# Altium integrated library Altium Database Library V2.IntLib: 722 symbols (part 15 of 35)

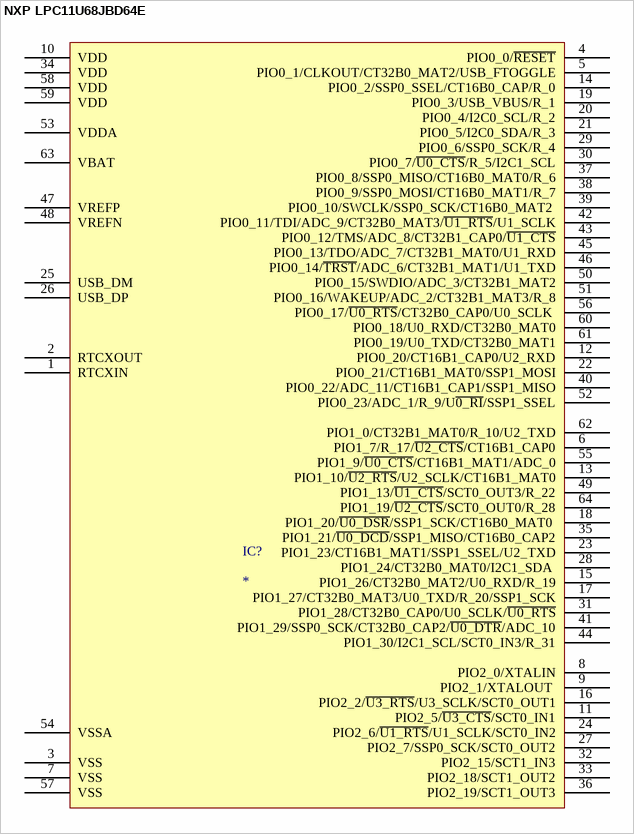
[diagram p322: symbol NXP LPC11U68JBD64E]

## NXP LPC11U68JBD64E
designator IC?
pins: 1 RTCXIN, 2 RTCXOUT, 3 VSS, 4 PIO0_0/~{RESET}, 5 PIO0_1/CLKOUT/CT32B0_MAT2/USB_FTOGGLE, 6 PIO1_7/R_17/~{U2_CTS}/CT16B1_CAP0, 7 VSS, 8 PIO2_0/XTALIN, 9 PIO2_1/XTALOUT , 10 VDD, 11 PIO2_5/~{U3_CTS}/SCT0_IN1, 12 PIO0_20/CT16B1_CAP0/U2_RXD, 13 PIO1_10/~{U2_RTS}/U2_SCLK/CT16B1_MAT0, 14 PIO0_2/SSP0_SSEL/CT16B0_CAP/R_0, 15 PIO1_26/CT32B0_MAT2/U0_RXD/R_19, 16 PIO2_2/~{U3_RTS}/U3_SCLK/SCT0_OUT1, 17 PIO1_27/CT32B0_MAT3/U0_TXD/R_20/SSP1_SCK, 18 PIO1_20/~{U0_DSR}/SSP1_SCK/CT16B0_MAT0 , 19 PIO0_3/USB_VBUS/R_1, 20 PIO0_4/I2C0_SCL/R_2, 21 PIO0_5/I2C0_SDA/R_3, 22 PIO0_21/CT16B1_MAT0/SSP1_MOSI, 23 PIO1_23/CT16B1_MAT1/SSP1_SSEL/U2_TXD, 24 PIO2_6/~{U1_RTS}/U1_SCLK/SCT0_IN2, 25 USB_DM, 26 USB_DP, 27 PIO2_7/SSP0_SCK/SCT0_OUT2, 28 PIO1_24/CT32B0_MAT0/I2C1_SDA , 29 PIO0_6/SSP0_SCK/R_4, 30 PIO0_7/~{U0_CTS}/R_5/I2C1_SCL, 31 PIO1_28/CT32B0_CAP0/U0_SCLK/~{U0_RTS}, 32 PIO2_15/SCT1_IN3, 33 PIO2_18/SCT1_OUT2, 34 VDD, 35 PIO1_21/~{U0_DCD}/SSP1_MISO/CT16B0_CAP2, 36 PIO2_19/SCT1_OUT3, 37 PIO0_8/SSP0_MISO/CT16B0_MAT0/R_6, 38 PIO0_9/SSP0_MOSI/CT16B0_MAT1/R_7, 39 PIO0_10/SWCLK/SSP0_SCK/CT16B0_MAT2 , 40 PIO0_22/ADC_11/CT16B1_CAP1/SSP1_MISO, 41 PIO1_29/SSP0_SCK/CT32B0_CAP2/~{U0_DTR}/ADC_10, 42 PIO0_11/TDI/ADC_9/CT32B0_MAT3/~{U1_RTS}/U1_SCLK, 43 PIO0_12/TMS/ADC_8/CT32B1_CAP0/~{U1_CTS}, 44 PIO1_30/I2C1_SCL/SCT0_IN3/R_31, 45 PIO0_13/TDO/ADC_7/CT32B1_MAT0/U1_RXD, 46 PIO0_14/~{TRST}/ADC_6/CT32B1_MAT1/U1_TXD, 47 VREFP, 48 VREFN, 49 PIO1_13/~{U1_CTS}/SCT0_OUT3/R_22, 50 PIO0_15/SWDIO/ADC_3/CT32B1_MAT2, 51 PIO0_16/WAKEUP/ADC_2/CT32B1_MAT3/R_8, 52 PIO0_23/ADC_1/R_9/U~{0_RI}/SSP1_SSEL, 53 VDDA, 54 VSSA, 55 PIO1_9/~{U0_CTS}/CT16B1_MAT1/ADC_0, 56 PIO0_17/~{U0_RTS}/CT32B0_CAP0/U0_SCLK , 57 VSS, 58 VDD, 59 VDD, 60 PIO0_18/U0_RXD/CT32B0_MAT0, 61 PIO0_19/U0_TXD/CT32B0_MAT1, 62 PIO1_0/CT32B1_MAT0/R_10/U2_TXD, 63 VBAT, 64 PIO1_19/~{U2_CTS}/SCT0_OUT0/R_28


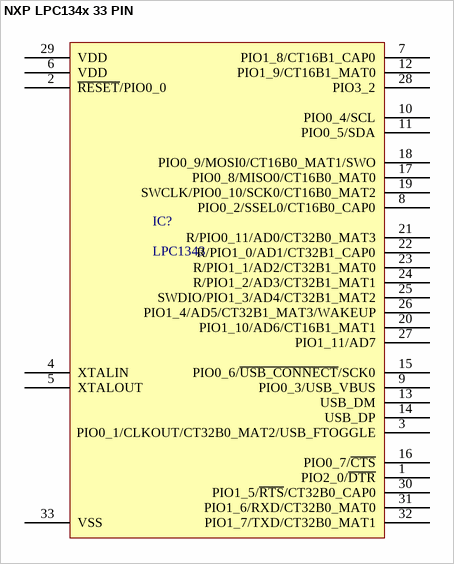
[diagram p323: symbol NXP LPC134x 33 PIN]

## NXP LPC134x 33 PIN
designator IC?, comment LPC1343
32-bit ARM Cortex-M3 microcontroller; up to 32kB flash and 8kB SRAM; USB device
pins: 1 PIO2_0/~{DTR}, 2 ~{RESET}/PIO0_0, 3 PIO0_1/CLKOUT/CT32B0_MAT2/USB_FTOGGLE, 4 XTALIN, 5 XTALOUT, 6 VDD, 7 PIO1_8/CT16B1_CAP0, 8 PIO0_2/SSEL0/CT16B0_CAP0, 9 PIO0_3/USB_VBUS, 10 PIO0_4/SCL, 11 PIO0_5/SDA, 12 PIO1_9/CT16B1_MAT0, 13 USB_DM, 14 USB_DP, 15 PIO0_6/~{USB_CONNECT}/SCK0, 16 PIO0_7/~{CTS}, 17 PIO0_8/MISO0/CT16B0_MAT0, 18 PIO0_9/MOSI0/CT16B0_MAT1/SWO, 19 SWCLK/PIO0_10/SCK0/CT16B0_MAT2, 20 PIO1_10/AD6/CT16B1_MAT1, 21 R/PIO0_11/AD0/CT32B0_MAT3, 22 R/PIO1_0/AD1/CT32B1_CAP0, 23 R/PIO1_1/AD2/CT32B1_MAT0, 24 R/PIO1_2/AD3/CT32B1_MAT1, 25 SWDIO/PIO1_3/AD4/CT32B1_MAT2, 26 PIO1_4/AD5/CT32B1_MAT3/WAKEUP, 27 PIO1_11/AD7, 28 PIO3_2, 29 VDD, 30 PIO1_5/~{RTS}/CT32B0_CAP0, 31 PIO1_6/RXD/CT32B0_MAT0, 32 PIO1_7/TXD/CT32B0_MAT1, 33 VSS


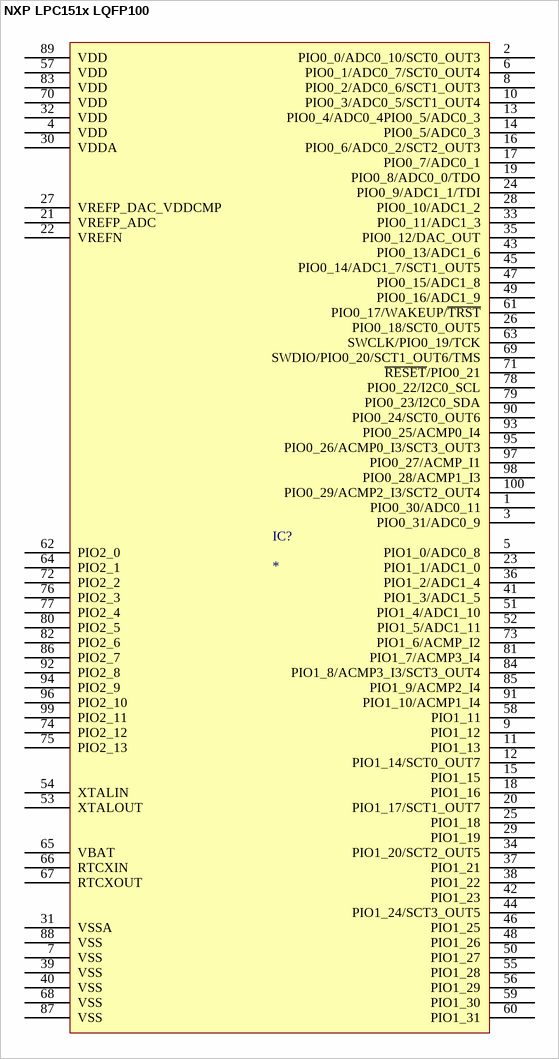
[diagram p324: symbol NXP LPC151x LQFP100]

## NXP LPC151x LQFP100
designator IC?
pins: 1 PIO0_30/ADC0_11, 2 PIO0_0/ADC0_10/SCT0_OUT3, 3 PIO0_31/ADC0_9, 4 VDD, 5 PIO1_0/ADC0_8, 6 PIO0_1/ADC0_7/SCT0_OUT4, 7 VSS, 8 PIO0_2/ADC0_6/SCT1_OUT3, 9 PIO1_12, 10 PIO0_3/ADC0_5/SCT1_OUT4, 11 PIO1_13, 12 PIO1_14/SCT0_OUT7, 13 PIO0_4/ADC0_4PIO0_5/ADC0_3, 14 PIO0_5/ADC0_3, 15 PIO1_15, 16 PIO0_6/ADC0_2/SCT2_OUT3, 17 PIO0_7/ADC0_1, 18 PIO1_16, 19 PIO0_8/ADC0_0/TDO, 20 PIO1_17/SCT1_OUT7, 21 VREFP_ADC, 22 VREFN, 23 PIO1_1/ADC1_0, 24 PIO0_9/ADC1_1/TDI, 25 PIO1_18, 26 PIO0_18/SCT0_OUT5, 27 VREFP_DAC_VDDCMP, 28 PIO0_10/ADC1_2, 29 PIO1_19, 30 VDDA, 31 VSSA, 32 VDD, 33 PIO0_11/ADC1_3, 34 PIO1_20/SCT2_OUT5, 35 PIO0_12/DAC_OUT, 36 PIO1_2/ADC1_4, 37 PIO1_21, 38 PIO1_22, 39 VSS, 40 VSS, 41 PIO1_3/ADC1_5, 42 PIO1_23, 43 PIO0_13/ADC1_6, 44 PIO1_24/SCT3_OUT5, 45 PIO0_14/ADC1_7/SCT1_OUT5, 46 PIO1_25, 47 PIO0_15/ADC1_8, 48 PIO1_26, 49 PIO0_16/ADC1_9, 50 PIO1_27, 51 PIO1_4/ADC1_10, 52 PIO1_5/ADC1_11, 53 XTALOUT, 54 XTALIN, 55 PIO1_28, 56 PIO1_29, 57 VDD, 58 PIO1_11, 59 PIO1_30, 60 PIO1_31, 61 PIO0_17/WAKEUP/~{TRST}, 62 PIO2_0, 63 SWCLK/PIO0_19/TCK, 64 PIO2_1, 65 VBAT, 66 RTCXIN, 67 RTCXOUT, 68 VSS, 69 SWDIO/PIO0_20/SCT1_OUT6/TMS, 70 VDD, 71 ~{RESET}/PIO0_21, 72 PIO2_2, 73 PIO1_6/ACMP_I2, 74 PIO2_12, 75 PIO2_13, 76 PIO2_3, 77 PIO2_4, 78 PIO0_22/I2C0_SCL, 79 PIO0_23/I2C0_SDA, 80 PIO2_5, 81 PIO1_7/ACMP3_I4, 82 PIO2_6, 83 VDD, 84 PIO1_8/ACMP3_I3/SCT3_OUT4, 85 PIO1_9/ACMP2_I4, 86 PIO2_7, 87 VSS, 88 VSS, 89 VDD, 90 PIO0_24/SCT0_OUT6, 91 PIO1_10/ACMP1_I4, 92 PIO2_8, 93 PIO0_25/ACMP0_I4, 94 PIO2_9, 95 PIO0_26/ACMP0_I3/SCT3_OUT3, 96 PIO2_10, 97 PIO0_27/ACMP_I1, 98 PIO0_28/ACMP1_I3, 99 PIO2_11, 100 PIO0_29/ACMP2_I3/SCT2_OUT4


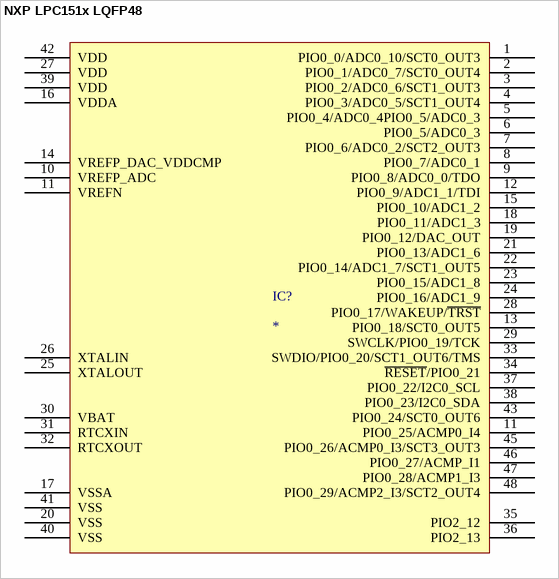
[diagram p325: symbol NXP LPC151x LQFP48]

## NXP LPC151x LQFP48
designator IC?
pins: 1 PIO0_0/ADC0_10/SCT0_OUT3, 2 PIO0_1/ADC0_7/SCT0_OUT4, 3 PIO0_2/ADC0_6/SCT1_OUT3, 4 PIO0_3/ADC0_5/SCT1_OUT4, 5 PIO0_4/ADC0_4PIO0_5/ADC0_3, 6 PIO0_5/ADC0_3, 7 PIO0_6/ADC0_2/SCT2_OUT3, 8 PIO0_7/ADC0_1, 9 PIO0_8/ADC0_0/TDO, 10 VREFP_ADC, 11 PIO0_25/ACMP0_I4, 11 VREFN, 12 PIO0_9/ADC1_1/TDI, 13 PIO0_18/SCT0_OUT5, 14 VREFP_DAC_VDDCMP, 15 PIO0_10/ADC1_2, 16 VDDA, 17 VSSA, 18 PIO0_11/ADC1_3, 19 PIO0_12/DAC_OUT, 20 VSS, 21 PIO0_13/ADC1_6, 22 PIO0_14/ADC1_7/SCT1_OUT5, 23 PIO0_15/ADC1_8, 24 PIO0_16/ADC1_9, 25 XTALOUT, 26 XTALIN, 27 VDD, 28 PIO0_17/WAKEUP/~{TRST}, 29 SWCLK/PIO0_19/TCK, 30 VBAT, 31 RTCXIN, 32 RTCXOUT, 33 SWDIO/PIO0_20/SCT1_OUT6/TMS, 34 ~{RESET}/PIO0_21, 35 PIO2_12, 36 PIO2_13, 37 PIO0_22/I2C0_SCL, 38 PIO0_23/I2C0_SDA, 39 VDD, 40 VSS, 41 VSS, 42 VDD, 43 PIO0_24/SCT0_OUT6, 45 PIO0_26/ACMP0_I3/SCT3_OUT3, 46 PIO0_27/ACMP_I1, 47 PIO0_28/ACMP1_I3, 48 PIO0_29/ACMP2_I3/SCT2_OUT4


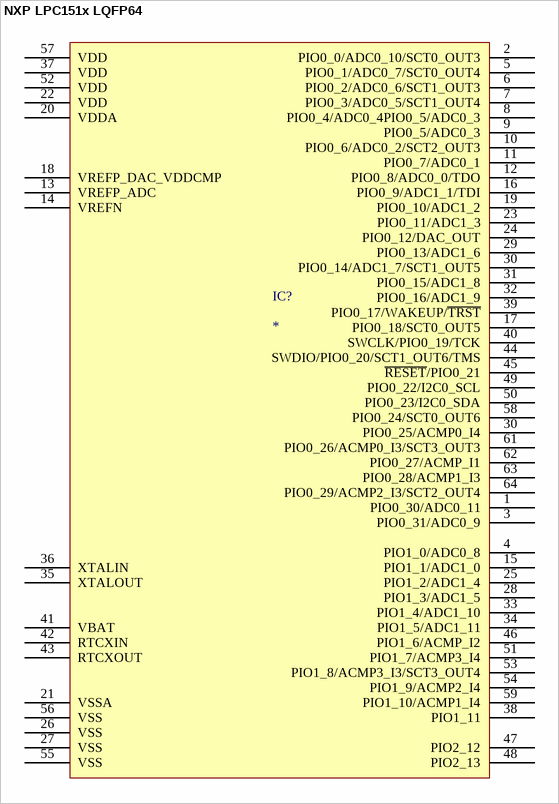
[diagram p326: symbol NXP LPC151x LQFP64]

## NXP LPC151x LQFP64
designator IC?
pins: 1 PIO0_30/ADC0_11, 2 PIO0_0/ADC0_10/SCT0_OUT3, 3 PIO0_31/ADC0_9, 4 PIO1_0/ADC0_8, 5 PIO0_1/ADC0_7/SCT0_OUT4, 6 PIO0_2/ADC0_6/SCT1_OUT3, 7 PIO0_3/ADC0_5/SCT1_OUT4, 8 PIO0_4/ADC0_4PIO0_5/ADC0_3, 9 PIO0_5/ADC0_3, 10 PIO0_6/ADC0_2/SCT2_OUT3, 11 PIO0_7/ADC0_1, 12 PIO0_8/ADC0_0/TDO, 13 VREFP_ADC, 14 VREFN, 15 PIO1_1/ADC1_0, 16 PIO0_9/ADC1_1/TDI, 17 PIO0_18/SCT0_OUT5, 18 VREFP_DAC_VDDCMP, 19 PIO0_10/ADC1_2, 20 VDDA, 21 VSSA, 22 VDD, 23 PIO0_11/ADC1_3, 24 PIO0_12/DAC_OUT, 25 PIO1_2/ADC1_4, 26 VSS, 27 VSS, 28 PIO1_3/ADC1_5, 29 PIO0_13/ADC1_6, 30 PIO0_14/ADC1_7/SCT1_OUT5, 30 PIO0_25/ACMP0_I4, 31 PIO0_15/ADC1_8, 32 PIO0_16/ADC1_9, 33 PIO1_4/ADC1_10, 34 PIO1_5/ADC1_11, 35 XTALOUT, 36 XTALIN, 37 VDD, 38 PIO1_11, 39 PIO0_17/WAKEUP/~{TRST}, 40 SWCLK/PIO0_19/TCK, 41 VBAT, 42 RTCXIN, 43 RTCXOUT, 44 SWDIO/PIO0_20/SCT1_OUT6/TMS, 45 ~{RESET}/PIO0_21, 46 PIO1_6/ACMP_I2, 47 PIO2_12, 48 PIO2_13, 49 PIO0_22/I2C0_SCL, 50 PIO0_23/I2C0_SDA, 51 PIO1_7/ACMP3_I4, 52 VDD, 53 PIO1_8/ACMP3_I3/SCT3_OUT4, 54 PIO1_9/ACMP2_I4, 55 VSS, 56 VSS, 57 VDD, 58 PIO0_24/SCT0_OUT6, 59 PIO1_10/ACMP1_I4, 61 PIO0_26/ACMP0_I3/SCT3_OUT3, 62 PIO0_27/ACMP_I1, 63 PIO0_28/ACMP1_I3, 64 PIO0_29/ACMP2_I3/SCT2_OUT4


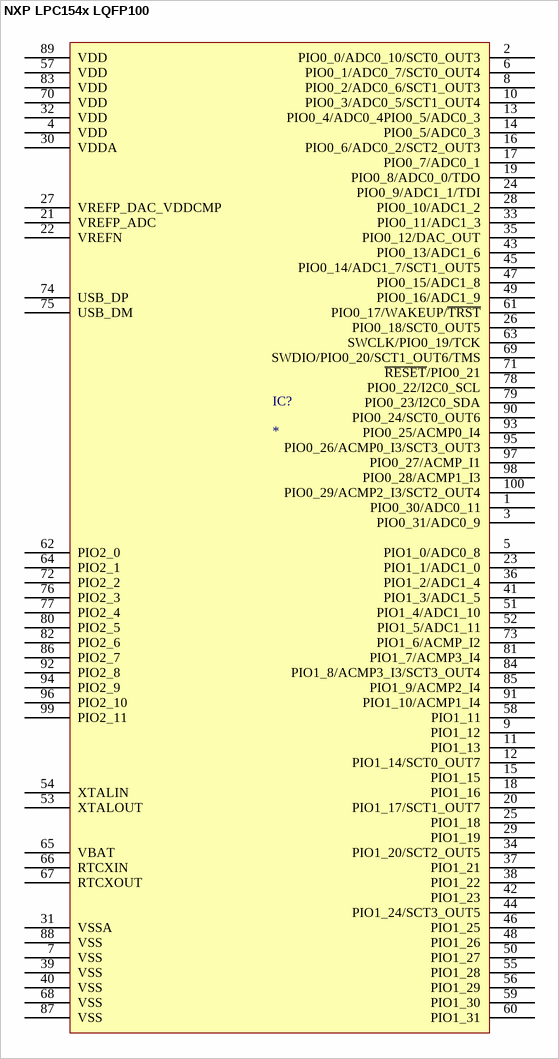
[diagram p327: symbol NXP LPC154x LQFP100]

## NXP LPC154x LQFP100
designator IC?
pins: 1 PIO0_30/ADC0_11, 2 PIO0_0/ADC0_10/SCT0_OUT3, 3 PIO0_31/ADC0_9, 4 VDD, 5 PIO1_0/ADC0_8, 6 PIO0_1/ADC0_7/SCT0_OUT4, 7 VSS, 8 PIO0_2/ADC0_6/SCT1_OUT3, 9 PIO1_12, 10 PIO0_3/ADC0_5/SCT1_OUT4, 11 PIO1_13, 12 PIO1_14/SCT0_OUT7, 13 PIO0_4/ADC0_4PIO0_5/ADC0_3, 14 PIO0_5/ADC0_3, 15 PIO1_15, 16 PIO0_6/ADC0_2/SCT2_OUT3, 17 PIO0_7/ADC0_1, 18 PIO1_16, 19 PIO0_8/ADC0_0/TDO, 20 PIO1_17/SCT1_OUT7, 21 VREFP_ADC, 22 VREFN, 23 PIO1_1/ADC1_0, 24 PIO0_9/ADC1_1/TDI, 25 PIO1_18, 26 PIO0_18/SCT0_OUT5, 27 VREFP_DAC_VDDCMP, 28 PIO0_10/ADC1_2, 29 PIO1_19, 30 VDDA, 31 VSSA, 32 VDD, 33 PIO0_11/ADC1_3, 34 PIO1_20/SCT2_OUT5, 35 PIO0_12/DAC_OUT, 36 PIO1_2/ADC1_4, 37 PIO1_21, 38 PIO1_22, 39 VSS, 40 VSS, 41 PIO1_3/ADC1_5, 42 PIO1_23, 43 PIO0_13/ADC1_6, 44 PIO1_24/SCT3_OUT5, 45 PIO0_14/ADC1_7/SCT1_OUT5, 46 PIO1_25, 47 PIO0_15/ADC1_8, 48 PIO1_26, 49 PIO0_16/ADC1_9, 50 PIO1_27, 51 PIO1_4/ADC1_10, 52 PIO1_5/ADC1_11, 53 XTALOUT, 54 XTALIN, 55 PIO1_28, 56 PIO1_29, 57 VDD, 58 PIO1_11, 59 PIO1_30, 60 PIO1_31, 61 PIO0_17/WAKEUP/~{TRST}, 62 PIO2_0, 63 SWCLK/PIO0_19/TCK, 64 PIO2_1, 65 VBAT, 66 RTCXIN, 67 RTCXOUT, 68 VSS, 69 SWDIO/PIO0_20/SCT1_OUT6/TMS, 70 VDD, 71 ~{RESET}/PIO0_21, 72 PIO2_2, 73 PIO1_6/ACMP_I2, 74 USB_DP, 75 USB_DM, 76 PIO2_3, 77 PIO2_4, 78 PIO0_22/I2C0_SCL, 79 PIO0_23/I2C0_SDA, 80 PIO2_5, 81 PIO1_7/ACMP3_I4, 82 PIO2_6, 83 VDD, 84 PIO1_8/ACMP3_I3/SCT3_OUT4, 85 PIO1_9/ACMP2_I4, 86 PIO2_7, 87 VSS, 88 VSS, 89 VDD, 90 PIO0_24/SCT0_OUT6, 91 PIO1_10/ACMP1_I4, 92 PIO2_8, 93 PIO0_25/ACMP0_I4, 94 PIO2_9, 95 PIO0_26/ACMP0_I3/SCT3_OUT3, 96 PIO2_10, 97 PIO0_27/ACMP_I1, 98 PIO0_28/ACMP1_I3, 99 PIO2_11, 100 PIO0_29/ACMP2_I3/SCT2_OUT4


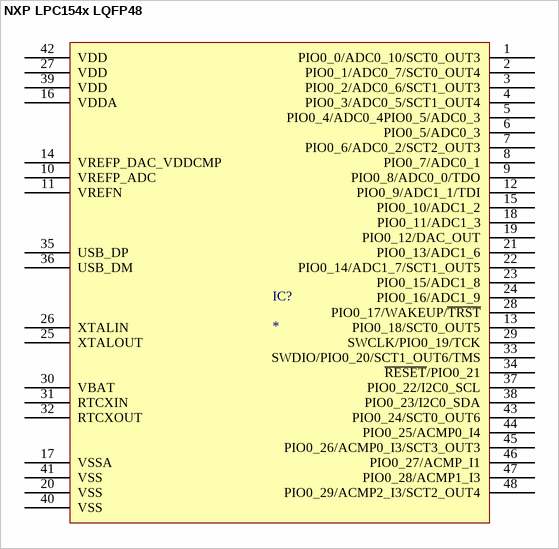
[diagram p328: symbol NXP LPC154x LQFP48]

## NXP LPC154x LQFP48
designator IC?
pins: 1 PIO0_0/ADC0_10/SCT0_OUT3, 2 PIO0_1/ADC0_7/SCT0_OUT4, 3 PIO0_2/ADC0_6/SCT1_OUT3, 4 PIO0_3/ADC0_5/SCT1_OUT4, 5 PIO0_4/ADC0_4PIO0_5/ADC0_3, 6 PIO0_5/ADC0_3, 7 PIO0_6/ADC0_2/SCT2_OUT3, 8 PIO0_7/ADC0_1, 9 PIO0_8/ADC0_0/TDO, 10 VREFP_ADC, 11 VREFN, 12 PIO0_9/ADC1_1/TDI, 13 PIO0_18/SCT0_OUT5, 14 VREFP_DAC_VDDCMP, 15 PIO0_10/ADC1_2, 16 VDDA, 17 VSSA, 18 PIO0_11/ADC1_3, 19 PIO0_12/DAC_OUT, 20 VSS, 21 PIO0_13/ADC1_6, 22 PIO0_14/ADC1_7/SCT1_OUT5, 23 PIO0_15/ADC1_8, 24 PIO0_16/ADC1_9, 25 XTALOUT, 26 XTALIN, 27 VDD, 28 PIO0_17/WAKEUP/~{TRST}, 29 SWCLK/PIO0_19/TCK, 30 VBAT, 31 RTCXIN, 32 RTCXOUT, 33 SWDIO/PIO0_20/SCT1_OUT6/TMS, 34 ~{RESET}/PIO0_21, 35 USB_DP, 36 USB_DM, 37 PIO0_22/I2C0_SCL, 38 PIO0_23/I2C0_SDA, 39 VDD, 40 VSS, 41 VSS, 42 VDD, 43 PIO0_24/SCT0_OUT6, 44 PIO0_25/ACMP0_I4, 45 PIO0_26/ACMP0_I3/SCT3_OUT3, 46 PIO0_27/ACMP_I1, 47 PIO0_28/ACMP1_I3, 48 PIO0_29/ACMP2_I3/SCT2_OUT4


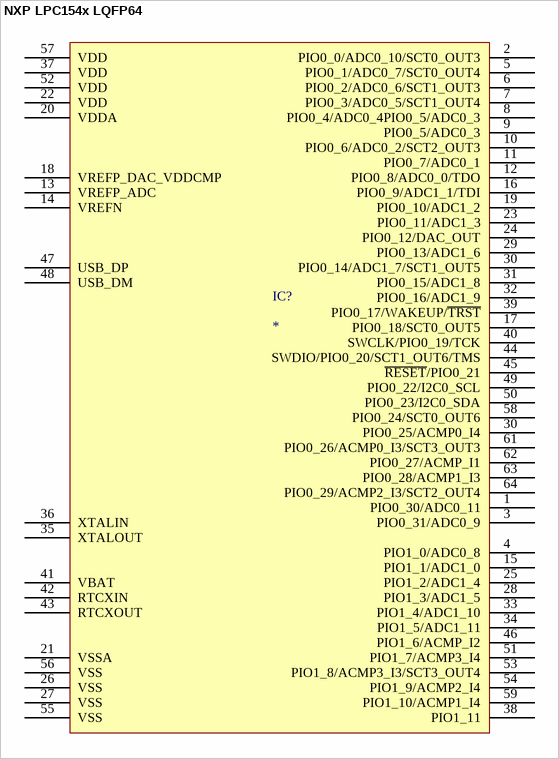
[diagram p329: symbol NXP LPC154x LQFP64]

## NXP LPC154x LQFP64
designator IC?
pins: 1 PIO0_30/ADC0_11, 2 PIO0_0/ADC0_10/SCT0_OUT3, 3 PIO0_31/ADC0_9, 4 PIO1_0/ADC0_8, 5 PIO0_1/ADC0_7/SCT0_OUT4, 6 PIO0_2/ADC0_6/SCT1_OUT3, 7 PIO0_3/ADC0_5/SCT1_OUT4, 8 PIO0_4/ADC0_4PIO0_5/ADC0_3, 9 PIO0_5/ADC0_3, 10 PIO0_6/ADC0_2/SCT2_OUT3, 11 PIO0_7/ADC0_1, 12 PIO0_8/ADC0_0/TDO, 13 VREFP_ADC, 14 VREFN, 15 PIO1_1/ADC1_0, 16 PIO0_9/ADC1_1/TDI, 17 PIO0_18/SCT0_OUT5, 18 VREFP_DAC_VDDCMP, 19 PIO0_10/ADC1_2, 20 VDDA, 21 VSSA, 22 VDD, 23 PIO0_11/ADC1_3, 24 PIO0_12/DAC_OUT, 25 PIO1_2/ADC1_4, 26 VSS, 27 VSS, 28 PIO1_3/ADC1_5, 29 PIO0_13/ADC1_6, 30 PIO0_14/ADC1_7/SCT1_OUT5, 30 PIO0_25/ACMP0_I4, 31 PIO0_15/ADC1_8, 32 PIO0_16/ADC1_9, 33 PIO1_4/ADC1_10, 34 PIO1_5/ADC1_11, 35 XTALOUT, 36 XTALIN, 37 VDD, 38 PIO1_11, 39 PIO0_17/WAKEUP/~{TRST}, 40 SWCLK/PIO0_19/TCK, 41 VBAT, 42 RTCXIN, 43 RTCXOUT, 44 SWDIO/PIO0_20/SCT1_OUT6/TMS, 45 ~{RESET}/PIO0_21, 46 PIO1_6/ACMP_I2, 47 USB_DP, 48 USB_DM, 49 PIO0_22/I2C0_SCL, 50 PIO0_23/I2C0_SDA, 51 PIO1_7/ACMP3_I4, 52 VDD, 53 PIO1_8/ACMP3_I3/SCT3_OUT4, 54 PIO1_9/ACMP2_I4, 55 VSS, 56 VSS, 57 VDD, 58 PIO0_24/SCT0_OUT6, 59 PIO1_10/ACMP1_I4, 61 PIO0_26/ACMP0_I3/SCT3_OUT3, 62 PIO0_27/ACMP_I1, 63 PIO0_28/ACMP1_I3, 64 PIO0_29/ACMP2_I3/SCT2_OUT4


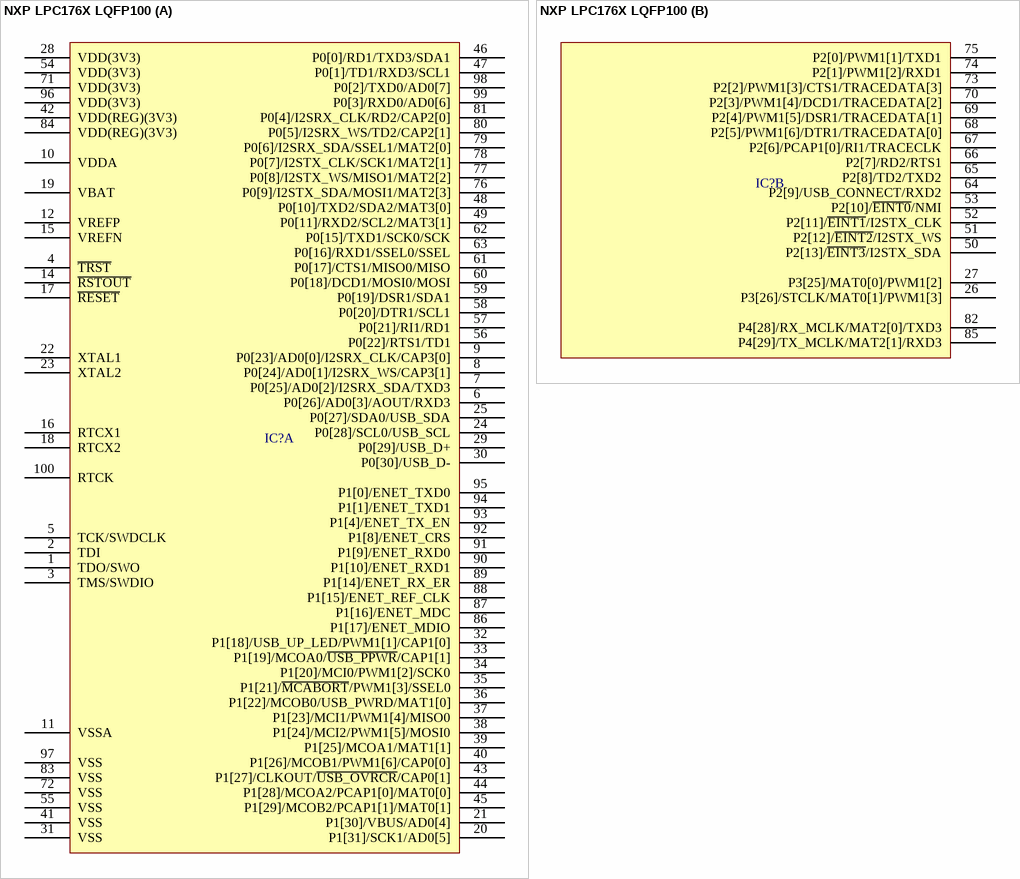
[diagram p330: symbol NXP LPC176X LQFP100]

## NXP LPC176X LQFP100
designator IC?  (value not drawn)
part A pins: 1 TDO/SWO, 2 TDI, 3 TMS/SWDIO, 4 ~{TRST}, 5 TCK/SWDCLK, 6 P0[26]/AD0[3]/AOUT/RXD3, 7 P0[25]/AD0[2]/I2SRX_SDA/TXD3, 8 P0[24]/AD0[1]/I2SRX_WS/CAP3[1], 9 P0[23]/AD0[0]/I2SRX_CLK/CAP3[0], 10 VDDA, 11 VSSA, 12 VREFP, 14 ~{RSTOUT}, 15 VREFN, 16 RTCX1, 17 ~{RESET}, 18 RTCX2, 19 VBAT, 20 P1[31]/SCK1/AD0[5], 21 P1[30]/VBUS/AD0[4], 22 XTAL1, 23 XTAL2, 24 P0[28]/SCL0/USB_SCL, 25 P0[27]/SDA0/USB_SDA, 28 VDD(3V3), 29 P0[29]/USB_D+, 30 P0[30]/USB_D-, 31 VSS, 32 P1[18]/USB_UP_LED/PWM1[1]/CAP1[0], 33 P1[19]/MCOA0/~{USB_PPWR}/CAP1[1], 34 P1[20]/MCI0/PWM1[2]/SCK0, 35 P1[21]/~{MCABORT}/PWM1[3]/SSEL0, 36 P1[22]/MCOB0/USB_PWRD/MAT1[0], 37 P1[23]/MCI1/PWM1[4]/MISO0, 38 P1[24]/MCI2/PWM1[5]/MOSI0, 39 P1[25]/MCOA1/MAT1[1], 40 P1[26]/MCOB1/PWM1[6]/CAP0[0], 41 VSS, 42 VDD(REG)(3V3), 43 P1[27]/CLKOUT/~{USB_OVRCR}/CAP0[1], 44 P1[28]/MCOA2/PCAP1[0]/MAT0[0], 45 P1[29]/MCOB2/PCAP1[1]/MAT0[1], 46 P0[0]/RD1/TXD3/SDA1, 47 P0[1]/TD1/RXD3/SCL1, 48 P0[10]/TXD2/SDA2/MAT3[0], 49 P0[11]/RXD2/SCL2/MAT3[1], 54 VDD(3V3), 55 VSS, 56 P0[22]/RTS1/TD1, 57 P0[21]/RI1/RD1, 58 P0[20]/DTR1/SCL1, 59 P0[19]/DSR1/SDA1, 60 P0[18]/DCD1/MOSI0/MOSI, 61 P0[17]/CTS1/MISO0/MISO, 62 P0[15]/TXD1/SCK0/SCK, 63 P0[16]/RXD1/SSEL0/SSEL, 71 VDD(3V3), 72 VSS, 76 P0[9]/I2STX_SDA/MOSI1/MAT2[3], 77 P0[8]/I2STX_WS/MISO1/MAT2[2], 78 P0[7]/I2STX_CLK/SCK1/MAT2[1], 79 P0[6]/I2SRX_SDA/SSEL1/MAT2[0], 80 P0[5]/I2SRX_WS/TD2/CAP2[1], 81 P0[4]/I2SRX_CLK/RD2/CAP2[0], 83 VSS, 84 VDD(REG)(3V3), 86 P1[17]/ENET_MDIO, 87 P1[16]/ENET_MDC, 88 P1[15]/ENET_REF_CLK, 89 P1[14]/ENET_RX_ER, 90 P1[10]/ENET_RXD1, 91 P1[9]/ENET_RXD0, 92 P1[8]/ENET_CRS, 93 P1[4]/ENET_TX_EN, 94 P1[1]/ENET_TXD1, 95 P1[0]/ENET_TXD0, 96 VDD(3V3), 97 VSS, 98 P0[2]/TXD0/AD0[7], 99 P0[3]/RXD0/AD0[6], 100 RTCK
part B pins: 26 P3[26]/STCLK/MAT0[1]/PWM1[3], 27 P3[25]/MAT0[0]/PWM1[2], 50 P2[13]/~{EINT3}/I2STX_SDA, 51 P2[12]/~{EINT2}/I2STX_WS, 52 P2[11]/~{EINT1}/I2STX_CLK, 53 P2[10]/~{EINT0}/NMI, 64 P2[9]/USB_CONNECT/RXD2, 65 P2[8]/TD2/TXD2, 66 P2[7]/RD2/RTS1, 67 P2[6]/PCAP1[0]/RI1/TRACECLK, 68 P2[5]/PWM1[6]/DTR1/TRACEDATA[0], 69 P2[4]/PWM1[5]/DSR1/TRACEDATA[1], 70 P2[3]/PWM1[4]/DCD1/TRACEDATA[2], 73 P2[2]/PWM1[3]/CTS1/TRACEDATA[3], 74 P2[1]/PWM1[2]/RXD1, 75 P2[0]/PWM1[1]/TXD1, 82 P4[28]/RX_MCLK/MAT2[0]/TXD3, 85 P4[29]/TX_MCLK/MAT2[1]/RXD3


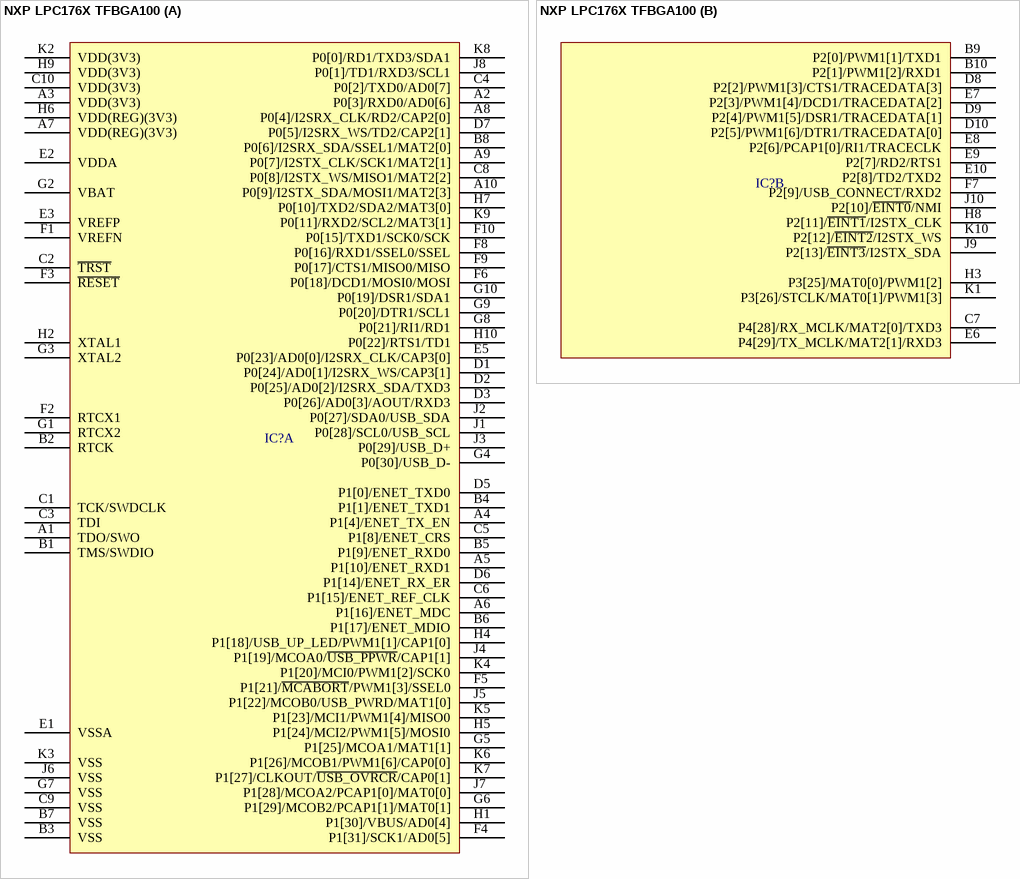
[diagram p331: symbol NXP LPC176X TFBGA100]

## NXP LPC176X TFBGA100
designator IC?  (value not drawn)
part A pins: A1 TDO/SWO, A2 P0[3]/RXD0/AD0[6], A3 VDD(3V3), A4 P1[4]/ENET_TX_EN, A5 P1[10]/ENET_RXD1, A6 P1[16]/ENET_MDC, A7 VDD(REG)(3V3), A8 P0[4]/I2SRX_CLK/RD2/CAP2[0], A9 P0[7]/I2STX_CLK/SCK1/MAT2[1], A10 P0[9]/I2STX_SDA/MOSI1/MAT2[3], B1 TMS/SWDIO, B2 RTCK, B3 VSS, B4 P1[1]/ENET_TXD1, B5 P1[9]/ENET_RXD0, B6 P1[17]/ENET_MDIO, B7 VSS, B8 P0[6]/I2SRX_SDA/SSEL1/MAT2[0], C1 TCK/SWDCLK, C2 ~{TRST}, C3 TDI, C4 P0[2]/TXD0/AD0[7], C5 P1[8]/ENET_CRS, C6 P1[15]/ENET_REF_CLK, C8 P0[8]/I2STX_WS/MISO1/MAT2[2], C9 VSS, C10 VDD(3V3), D1 P0[24]/AD0[1]/I2SRX_WS/CAP3[1], D2 P0[25]/AD0[2]/I2SRX_SDA/TXD3, D3 P0[26]/AD0[3]/AOUT/RXD3, D5 P1[0]/ENET_TXD0, D6 P1[14]/ENET_RX_ER, D7 P0[5]/I2SRX_WS/TD2/CAP2[1], E1 VSSA, E2 VDDA, E3 VREFP, E5 P0[23]/AD0[0]/I2SRX_CLK/CAP3[0], F1 VREFN, F2 RTCX1, F3 ~{RESET}, F4 P1[31]/SCK1/AD0[5], F5 P1[21]/~{MCABORT}/PWM1[3]/SSEL0, F6 P0[18]/DCD1/MOSI0/MOSI, F8 P0[16]/RXD1/SSEL0/SSEL, F9 P0[17]/CTS1/MISO0/MISO, F10 P0[15]/TXD1/SCK0/SCK, G1 RTCX2, G2 VBAT, G3 XTAL2, G4 P0[30]/USB_D-, G5 P1[25]/MCOA1/MAT1[1], G6 P1[29]/MCOB2/PCAP1[1]/MAT0[1], G7 VSS, G8 P0[21]/RI1/RD1, G9 P0[20]/DTR1/SCL1, G10 P0[19]/DSR1/SDA1, H1 P1[30]/VBUS/AD0[4], H2 XTAL1, H4 P1[18]/USB_UP_LED/PWM1[1]/CAP1[0], H5 P1[24]/MCI2/PWM1[5]/MOSI0, H6 VDD(REG)(3V3), H7 P0[10]/TXD2/SDA2/MAT3[0], H9 VDD(3V3), H10 P0[22]/RTS1/TD1, J1 P0[28]/SCL0/USB_SCL, J2 P0[27]/SDA0/USB_SDA, J3 P0[29]/USB_D+, J4 P1[19]/MCOA0/~{USB_PPWR}/CAP1[1], J5 P1[22]/MCOB0/USB_PWRD/MAT1[0], J6 VSS, J7 P1[28]/MCOA2/PCAP1[0]/MAT0[0], J8 P0[1]/TD1/RXD3/SCL1, K2 VDD(3V3), K3 VSS, K4 P1[20]/MCI0/PWM1[2]/SCK0, K5 P1[23]/MCI1/PWM1[4]/MISO0, K6 P1[26]/MCOB1/PWM1[6]/CAP0[0], K7 P1[27]/CLKOUT/~{USB_OVRCR}/CAP0[1], K8 P0[0]/RD1/TXD3/SDA1, K9 P0[11]/RXD2/SCL2/MAT3[1]
part B pins: B9 P2[0]/PWM1[1]/TXD1, B10 P2[1]/PWM1[2]/RXD1, C7 P4[28]/RX_MCLK/MAT2[0]/TXD3, D8 P2[2]/PWM1[3]/CTS1/TRACEDATA[3], D9 P2[4]/PWM1[5]/DSR1/TRACEDATA[1], D10 P2[5]/PWM1[6]/DTR1/TRACEDATA[0], E6 P4[29]/TX_MCLK/MAT2[1]/RXD3, E7 P2[3]/PWM1[4]/DCD1/TRACEDATA[2], E8 P2[6]/PCAP1[0]/RI1/TRACECLK, E9 P2[7]/RD2/RTS1, E10 P2[8]/TD2/TXD2, F7 P2[9]/USB_CONNECT/RXD2, H3 P3[25]/MAT0[0]/PWM1[2], H8 P2[11]/~{EINT1}/I2STX_CLK, J9 P2[13]/~{EINT3}/I2STX_SDA, J10 P2[10]/~{EINT0}/NMI, K1 P3[26]/STCLK/MAT0[1]/PWM1[3], K10 P2[12]/~{EINT2}/I2STX_WS


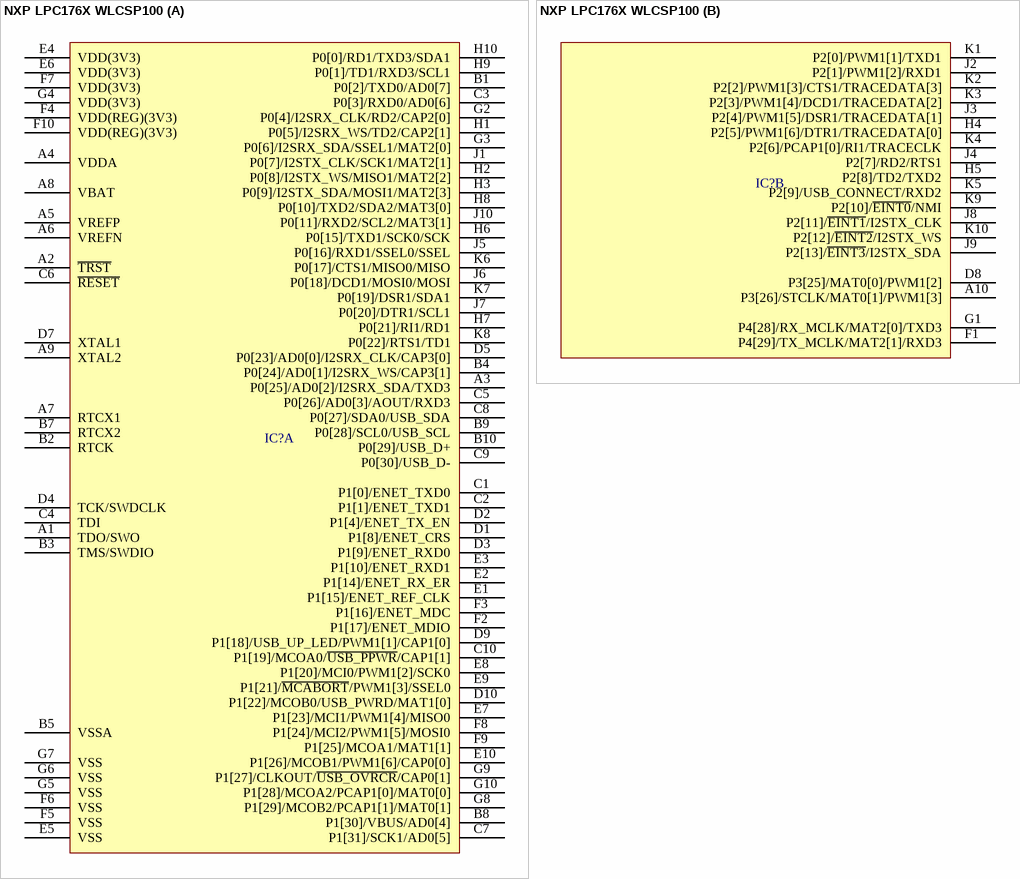
[diagram p332: symbol NXP LPC176X WLCSP100]

## NXP LPC176X WLCSP100
designator IC?  (value not drawn)
part A pins: A1 TDO/SWO, A2 ~{TRST}, A3 P0[25]/AD0[2]/I2SRX_SDA/TXD3, A4 VDDA, A5 VREFP, A6 VREFN, A7 RTCX1, A8 VBAT, A9 XTAL2, B1 P0[2]/TXD0/AD0[7], B2 RTCK, B3 TMS/SWDIO, B4 P0[24]/AD0[1]/I2SRX_WS/CAP3[1], B5 VSSA, B7 RTCX2, B8 P1[30]/VBUS/AD0[4], B9 P0[28]/SCL0/USB_SCL, B10 P0[29]/USB_D+, C1 P1[0]/ENET_TXD0, C2 P1[1]/ENET_TXD1, C3 P0[3]/RXD0/AD0[6], C4 TDI, C5 P0[26]/AD0[3]/AOUT/RXD3, C6 ~{RESET}, C7 P1[31]/SCK1/AD0[5], C8 P0[27]/SDA0/USB_SDA, C9 P0[30]/USB_D-, C10 P1[19]/MCOA0/~{USB_PPWR}/CAP1[1], D1 P1[8]/ENET_CRS, D2 P1[4]/ENET_TX_EN, D3 P1[9]/ENET_RXD0, D4 TCK/SWDCLK, D5 P0[23]/AD0[0]/I2SRX_CLK/CAP3[0], D7 XTAL1, D9 P1[18]/USB_UP_LED/PWM1[1]/CAP1[0], D10 P1[22]/MCOB0/USB_PWRD/MAT1[0], E1 P1[15]/ENET_REF_CLK, E2 P1[14]/ENET_RX_ER, E3 P1[10]/ENET_RXD1, E4 VDD(3V3), E5 VSS, E6 VDD(3V3), E7 P1[23]/MCI1/PWM1[4]/MISO0, E8 P1[20]/MCI0/PWM1[2]/SCK0, E9 P1[21]/~{MCABORT}/PWM1[3]/SSEL0, E10 P1[26]/MCOB1/PWM1[6]/CAP0[0], F2 P1[17]/ENET_MDIO, F3 P1[16]/ENET_MDC, F4 VDD(REG)(3V3), F5 VSS, F6 VSS, F7 VDD(3V3), F8 P1[24]/MCI2/PWM1[5]/MOSI0, F9 P1[25]/MCOA1/MAT1[1], F10 VDD(REG)(3V3), G2 P0[4]/I2SRX_CLK/RD2/CAP2[0], G3 P0[6]/I2SRX_SDA/SSEL1/MAT2[0], G4 VDD(3V3), G5 VSS, G6 VSS, G7 VSS, G8 P1[29]/MCOB2/PCAP1[1]/MAT0[1], G9 P1[27]/CLKOUT/~{USB_OVRCR}/CAP0[1], G10 P1[28]/MCOA2/PCAP1[0]/MAT0[0], H1 P0[5]/I2SRX_WS/TD2/CAP2[1], H2 P0[8]/I2STX_WS/MISO1/MAT2[2], H3 P0[9]/I2STX_SDA/MOSI1/MAT2[3], H6 P0[15]/TXD1/SCK0/SCK, H7 P0[21]/RI1/RD1, H8 P0[10]/TXD2/SDA2/MAT3[0], H9 P0[1]/TD1/RXD3/SCL1, H10 P0[0]/RD1/TXD3/SDA1, J1 P0[7]/I2STX_CLK/SCK1/MAT2[1], J5 P0[16]/RXD1/SSEL0/SSEL, J6 P0[18]/DCD1/MOSI0/MOSI, J7 P0[20]/DTR1/SCL1, J10 P0[11]/RXD2/SCL2/MAT3[1], K6 P0[17]/CTS1/MISO0/MISO, K7 P0[19]/DSR1/SDA1, K8 P0[22]/RTS1/TD1
part B pins: A10 P3[26]/STCLK/MAT0[1]/PWM1[3], D8 P3[25]/MAT0[0]/PWM1[2], F1 P4[29]/TX_MCLK/MAT2[1]/RXD3, G1 P4[28]/RX_MCLK/MAT2[0]/TXD3, H4 P2[5]/PWM1[6]/DTR1/TRACEDATA[0], H5 P2[8]/TD2/TXD2, J2 P2[1]/PWM1[2]/RXD1, J3 P2[4]/PWM1[5]/DSR1/TRACEDATA[1], J4 P2[7]/RD2/RTS1, J8 P2[11]/~{EINT1}/I2STX_CLK, J9 P2[13]/~{EINT3}/I2STX_SDA, K1 P2[0]/PWM1[1]/TXD1, K2 P2[2]/PWM1[3]/CTS1/TRACEDATA[3], K3 P2[3]/PWM1[4]/DCD1/TRACEDATA[2], K4 P2[6]/PCAP1[0]/RI1/TRACECLK, K5 P2[9]/USB_CONNECT/RXD2, K9 P2[10]/~{EINT0}/NMI, K10 P2[12]/~{EINT2}/I2STX_WS


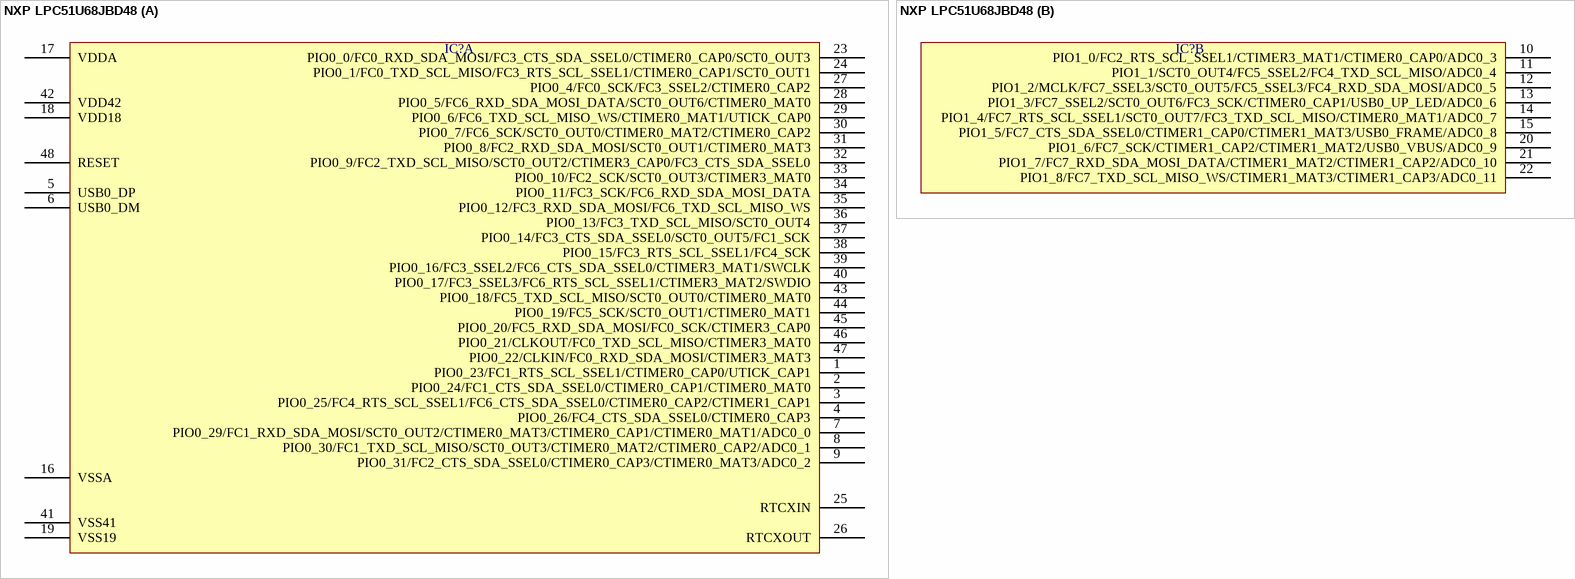
[diagram p333: symbol NXP LPC51U68JBD48]

## NXP LPC51U68JBD48
designator IC?  (value not drawn)
part A pins: 1 PIO0_23/FC1_RTS_SCL_SSEL1/CTIMER0_CAP0/UTICK_CAP1, 2 PIO0_24/FC1_CTS_SDA_SSEL0/CTIMER0_CAP1/CTIMER0_MAT0, 3 PIO0_25/FC4_RTS_SCL_SSEL1/FC6_CTS_SDA_SSEL0/CTIMER0_CAP2/CTIMER1_CAP1, 4 PIO0_26/FC4_CTS_SDA_SSEL0/CTIMER0_CAP3, 5 USB0_DP, 6 USB0_DM, 7 PIO0_29/FC1_RXD_SDA_MOSI/SCT0_OUT2/CTIMER0_MAT3/CTIMER0_CAP1/CTIMER0_MAT1/ADC0_0, 8 PIO0_30/FC1_TXD_SCL_MISO/SCT0_OUT3/CTIMER0_MAT2/CTIMER0_CAP2/ADC0_1, 9 PIO0_31/FC2_CTS_SDA_SSEL0/CTIMER0_CAP3/CTIMER0_MAT3/ADC0_2, 16 VSSA, 17 VDDA, 18 VDD18, 19 VSS19, 23 PIO0_0/FC0_RXD_SDA_MOSI/FC3_CTS_SDA_SSEL0/CTIMER0_CAP0/SCT0_OUT3, 24 PIO0_1/FC0_TXD_SCL_MISO/FC3_RTS_SCL_SSEL1/CTIMER0_CAP1/SCT0_OUT1, 25 RTCXIN, 26 RTCXOUT, 27 PIO0_4/FC0_SCK/FC3_SSEL2/CTIMER0_CAP2, 28 PIO0_5/FC6_RXD_SDA_MOSI_DATA/SCT0_OUT6/CTIMER0_MAT0, 29 PIO0_6/FC6_TXD_SCL_MISO_WS/CTIMER0_MAT1/UTICK_CAP0, 30 PIO0_7/FC6_SCK/SCT0_OUT0/CTIMER0_MAT2/CTIMER0_CAP2, 31 PIO0_8/FC2_RXD_SDA_MOSI/SCT0_OUT1/CTIMER0_MAT3, 32 PIO0_9/FC2_TXD_SCL_MISO/SCT0_OUT2/CTIMER3_CAP0/FC3_CTS_SDA_SSEL0, 33 PIO0_10/FC2_SCK/SCT0_OUT3/CTIMER3_MAT0, 34 PIO0_11/FC3_SCK/FC6_RXD_SDA_MOSI_DATA, 35 PIO0_12/FC3_RXD_SDA_MOSI/FC6_TXD_SCL_MISO_WS, 36 PIO0_13/FC3_TXD_SCL_MISO/SCT0_OUT4, 37 PIO0_14/FC3_CTS_SDA_SSEL0/SCT0_OUT5/FC1_SCK, 38 PIO0_15/FC3_RTS_SCL_SSEL1/FC4_SCK, 39 PIO0_16/FC3_SSEL2/FC6_CTS_SDA_SSEL0/CTIMER3_MAT1/SWCLK, 40 PIO0_17/FC3_SSEL3/FC6_RTS_SCL_SSEL1/CTIMER3_MAT2/SWDIO, 41 VSS41, 42 VDD42, 43 PIO0_18/FC5_TXD_SCL_MISO/SCT0_OUT0/CTIMER0_MAT0, 44 PIO0_19/FC5_SCK/SCT0_OUT1/CTIMER0_MAT1, 45 PIO0_20/FC5_RXD_SDA_MOSI/FC0_SCK/CTIMER3_CAP0, 46 PIO0_21/CLKOUT/FC0_TXD_SCL_MISO/CTIMER3_MAT0, 47 PIO0_22/CLKIN/FC0_RXD_SDA_MOSI/CTIMER3_MAT3, 48 RESET
part B pins: 10 PIO1_0/FC2_RTS_SCL_SSEL1/CTIMER3_MAT1/CTIMER0_CAP0/ADC0_3, 11 PIO1_1/SCT0_OUT4/FC5_SSEL2/FC4_TXD_SCL_MISO/ADC0_4, 12 PIO1_2/MCLK/FC7_SSEL3/SCT0_OUT5/FC5_SSEL3/FC4_RXD_SDA_MOSI/ADC0_5, 13 PIO1_3/FC7_SSEL2/SCT0_OUT6/FC3_SCK/CTIMER0_CAP1/USB0_UP_LED/ADC0_6, 14 PIO1_4/FC7_RTS_SCL_SSEL1/SCT0_OUT7/FC3_TXD_SCL_MISO/CTIMER0_MAT1/ADC0_7, 15 PIO1_5/FC7_CTS_SDA_SSEL0/CTIMER1_CAP0/CTIMER1_MAT3/USB0_FRAME/ADC0_8, 20 PIO1_6/FC7_SCK/CTIMER1_CAP2/CTIMER1_MAT2/USB0_VBUS/ADC0_9, 21 PIO1_7/FC7_RXD_SDA_MOSI_DATA/CTIMER1_MAT2/CTIMER1_CAP2/ADC0_10, 22 PIO1_8/FC7_TXD_SCL_MISO_WS/CTIMER1_MAT3/CTIMER1_CAP3/ADC0_11


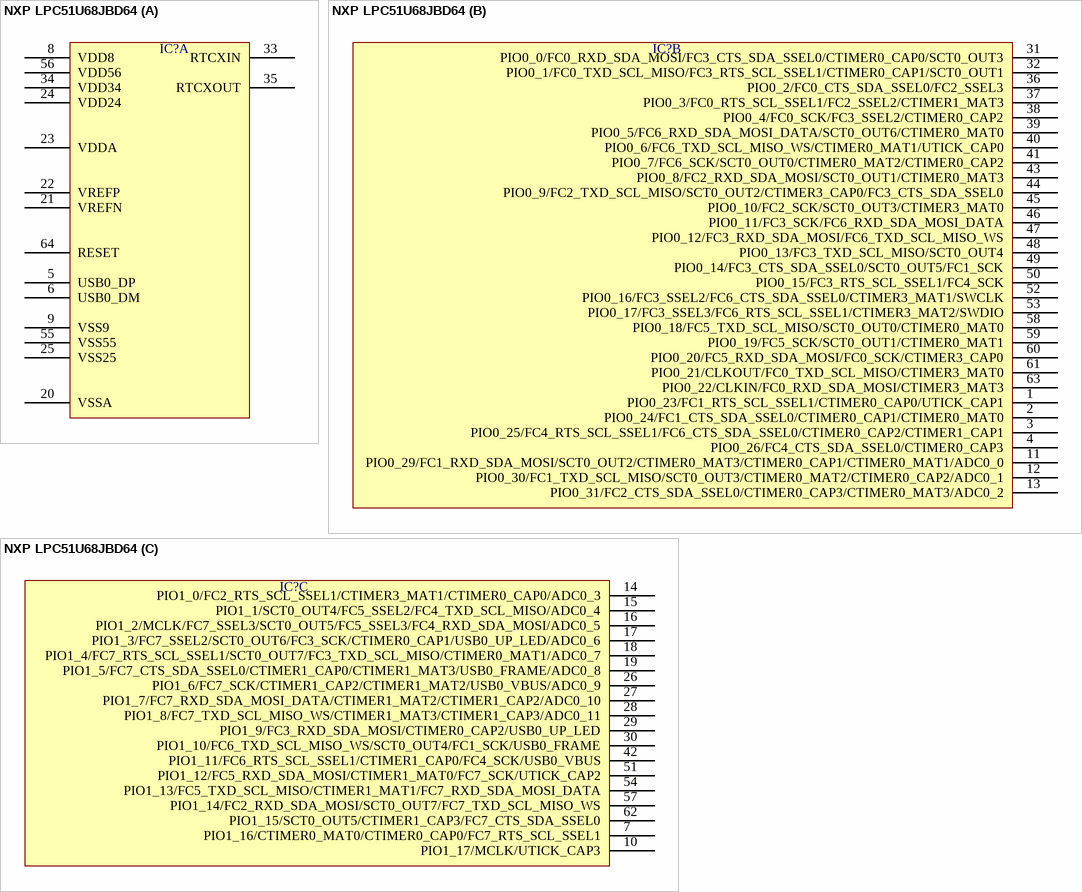
[diagram p334: symbol NXP LPC51U68JBD64]

## NXP LPC51U68JBD64
designator IC?  (value not drawn)
part A pins: 5 USB0_DP, 6 USB0_DM, 8 VDD8, 9 VSS9, 20 VSSA, 21 VREFN, 22 VREFP, 23 VDDA, 24 VDD24, 25 VSS25, 33 RTCXIN, 34 VDD34, 35 RTCXOUT, 55 VSS55, 56 VDD56, 64 RESET
part B pins: 1 PIO0_23/FC1_RTS_SCL_SSEL1/CTIMER0_CAP0/UTICK_CAP1, 2 PIO0_24/FC1_CTS_SDA_SSEL0/CTIMER0_CAP1/CTIMER0_MAT0, 3 PIO0_25/FC4_RTS_SCL_SSEL1/FC6_CTS_SDA_SSEL0/CTIMER0_CAP2/CTIMER1_CAP1, 4 PIO0_26/FC4_CTS_SDA_SSEL0/CTIMER0_CAP3, 11 PIO0_29/FC1_RXD_SDA_MOSI/SCT0_OUT2/CTIMER0_MAT3/CTIMER0_CAP1/CTIMER0_MAT1/ADC0_0, 12 PIO0_30/FC1_TXD_SCL_MISO/SCT0_OUT3/CTIMER0_MAT2/CTIMER0_CAP2/ADC0_1, 13 PIO0_31/FC2_CTS_SDA_SSEL0/CTIMER0_CAP3/CTIMER0_MAT3/ADC0_2, 31 PIO0_0/FC0_RXD_SDA_MOSI/FC3_CTS_SDA_SSEL0/CTIMER0_CAP0/SCT0_OUT3, 32 PIO0_1/FC0_TXD_SCL_MISO/FC3_RTS_SCL_SSEL1/CTIMER0_CAP1/SCT0_OUT1, 36 PIO0_2/FC0_CTS_SDA_SSEL0/FC2_SSEL3, 37 PIO0_3/FC0_RTS_SCL_SSEL1/FC2_SSEL2/CTIMER1_MAT3, 38 PIO0_4/FC0_SCK/FC3_SSEL2/CTIMER0_CAP2, 39 PIO0_5/FC6_RXD_SDA_MOSI_DATA/SCT0_OUT6/CTIMER0_MAT0, 40 PIO0_6/FC6_TXD_SCL_MISO_WS/CTIMER0_MAT1/UTICK_CAP0, 41 PIO0_7/FC6_SCK/SCT0_OUT0/CTIMER0_MAT2/CTIMER0_CAP2, 43 PIO0_8/FC2_RXD_SDA_MOSI/SCT0_OUT1/CTIMER0_MAT3, 44 PIO0_9/FC2_TXD_SCL_MISO/SCT0_OUT2/CTIMER3_CAP0/FC3_CTS_SDA_SSEL0, 45 PIO0_10/FC2_SCK/SCT0_OUT3/CTIMER3_MAT0, 46 PIO0_11/FC3_SCK/FC6_RXD_SDA_MOSI_DATA, 47 PIO0_12/FC3_RXD_SDA_MOSI/FC6_TXD_SCL_MISO_WS, 48 PIO0_13/FC3_TXD_SCL_MISO/SCT0_OUT4, 49 PIO0_14/FC3_CTS_SDA_SSEL0/SCT0_OUT5/FC1_SCK, 50 PIO0_15/FC3_RTS_SCL_SSEL1/FC4_SCK, 52 PIO0_16/FC3_SSEL2/FC6_CTS_SDA_SSEL0/CTIMER3_MAT1/SWCLK, 53 PIO0_17/FC3_SSEL3/FC6_RTS_SCL_SSEL1/CTIMER3_MAT2/SWDIO, 58 PIO0_18/FC5_TXD_SCL_MISO/SCT0_OUT0/CTIMER0_MAT0, 59 PIO0_19/FC5_SCK/SCT0_OUT1/CTIMER0_MAT1, 60 PIO0_20/FC5_RXD_SDA_MOSI/FC0_SCK/CTIMER3_CAP0, 61 PIO0_21/CLKOUT/FC0_TXD_SCL_MISO/CTIMER3_MAT0, 63 PIO0_22/CLKIN/FC0_RXD_SDA_MOSI/CTIMER3_MAT3
part C pins: 7 PIO1_16/CTIMER0_MAT0/CTIMER0_CAP0/FC7_RTS_SCL_SSEL1, 10 PIO1_17/MCLK/UTICK_CAP3, 14 PIO1_0/FC2_RTS_SCL_SSEL1/CTIMER3_MAT1/CTIMER0_CAP0/ADC0_3, 15 PIO1_1/SCT0_OUT4/FC5_SSEL2/FC4_TXD_SCL_MISO/ADC0_4, 16 PIO1_2/MCLK/FC7_SSEL3/SCT0_OUT5/FC5_SSEL3/FC4_RXD_SDA_MOSI/ADC0_5, 17 PIO1_3/FC7_SSEL2/SCT0_OUT6/FC3_SCK/CTIMER0_CAP1/USB0_UP_LED/ADC0_6, 18 PIO1_4/FC7_RTS_SCL_SSEL1/SCT0_OUT7/FC3_TXD_SCL_MISO/CTIMER0_MAT1/ADC0_7, 19 PIO1_5/FC7_CTS_SDA_SSEL0/CTIMER1_CAP0/CTIMER1_MAT3/USB0_FRAME/ADC0_8, 26 PIO1_6/FC7_SCK/CTIMER1_CAP2/CTIMER1_MAT2/USB0_VBUS/ADC0_9, 27 PIO1_7/FC7_RXD_SDA_MOSI_DATA/CTIMER1_MAT2/CTIMER1_CAP2/ADC0_10, 28 PIO1_8/FC7_TXD_SCL_MISO_WS/CTIMER1_MAT3/CTIMER1_CAP3/ADC0_11, 29 PIO1_9/FC3_RXD_SDA_MOSI/CTIMER0_CAP2/USB0_UP_LED, 30 PIO1_10/FC6_TXD_SCL_MISO_WS/SCT0_OUT4/FC1_SCK/USB0_FRAME, 42 PIO1_11/FC6_RTS_SCL_SSEL1/CTIMER1_CAP0/FC4_SCK/USB0_VBUS, 51 PIO1_12/FC5_RXD_SDA_MOSI/CTIMER1_MAT0/FC7_SCK/UTICK_CAP2, 54 PIO1_13/FC5_TXD_SCL_MISO/CTIMER1_MAT1/FC7_RXD_SDA_MOSI_DATA, 57 PIO1_14/FC2_RXD_SDA_MOSI/SCT0_OUT7/FC7_TXD_SCL_MISO_WS, 62 PIO1_15/SCT0_OUT5/CTIMER1_CAP3/FC7_CTS_SDA_SSEL0


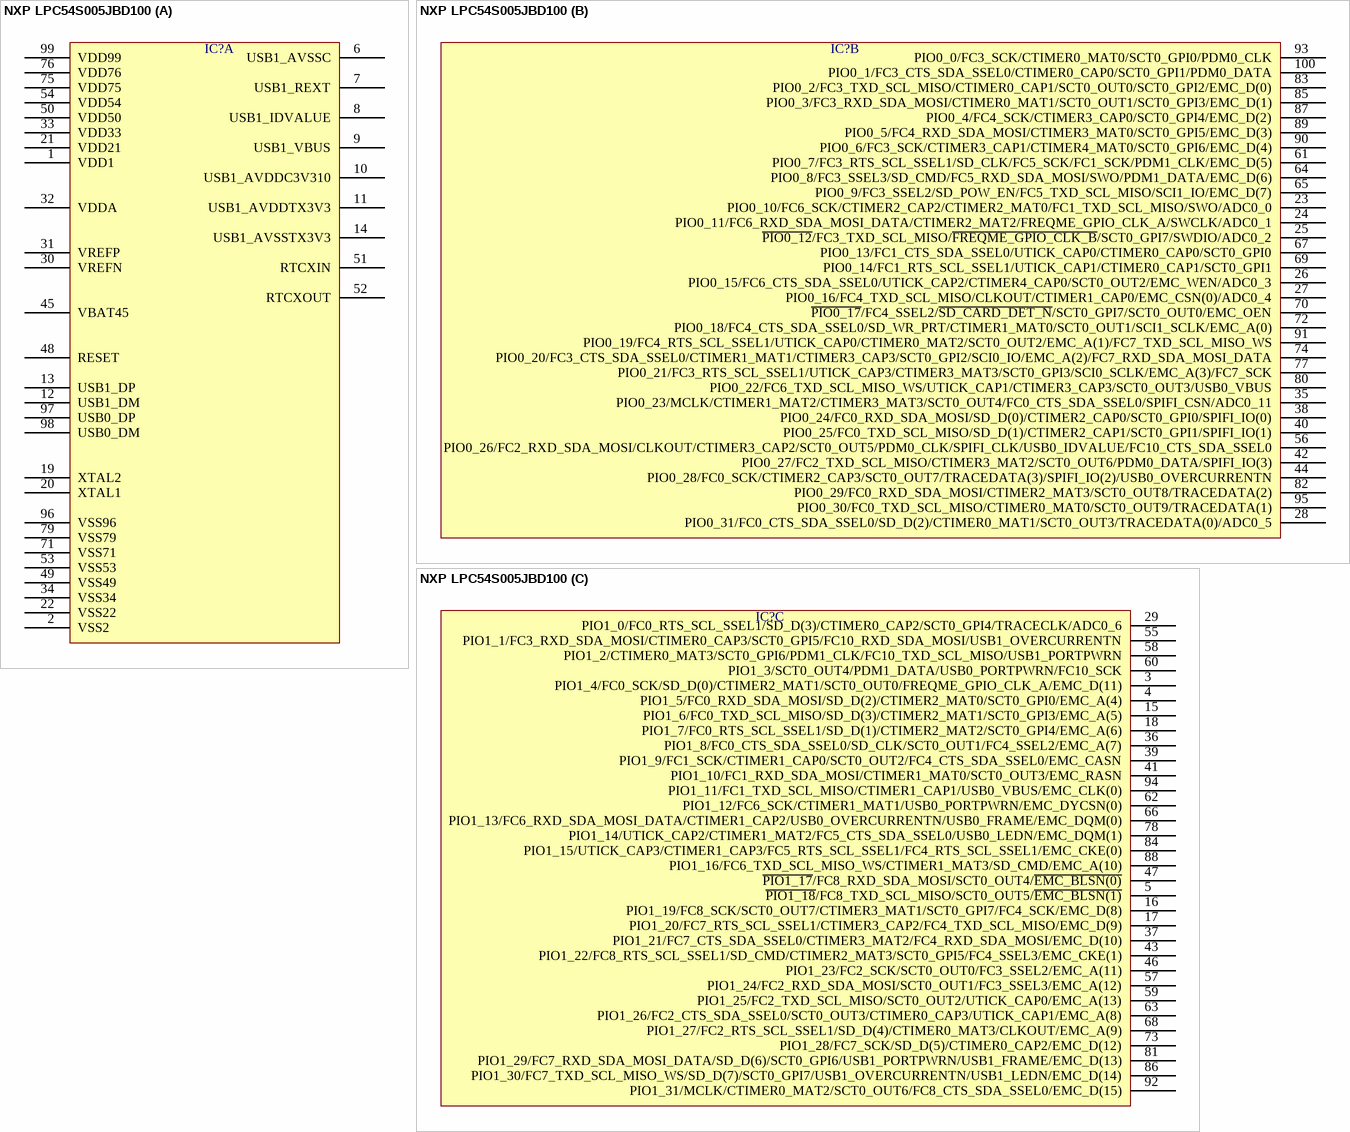
[diagram p335: symbol NXP LPC54S005JBD100]

## NXP LPC54S005JBD100
designator IC?  (value not drawn)
part A pins: 1 VDD1, 2 VSS2, 6 USB1_AVSSC, 7 USB1_REXT, 8 USB1_IDVALUE, 9 USB1_VBUS, 10 USB1_AVDDC3V310, 11 USB1_AVDDTX3V3, 12 USB1_DM, 13 USB1_DP, 14 USB1_AVSSTX3V3, 19 XTAL2, 20 XTAL1, 21 VDD21, 22 VSS22, 30 VREFN, 31 VREFP, 32 VDDA, 33 VDD33, 34 VSS34, 45 VBAT45, 48 RESET, 49 VSS49, 50 VDD50, 51 RTCXIN, 52 RTCXOUT, 53 VSS53, 54 VDD54, 71 VSS71, 75 VDD75, 76 VDD76, 79 VSS79, 96 VSS96, 97 USB0_DP, 98 USB0_DM, 99 VDD99
part B pins: 23 PIO0_10/FC6_SCK/CTIMER2_CAP2/CTIMER2_MAT0/FC1_TXD_SCL_MISO/SWO/ADC0_0, 24 PIO0_11/FC6_RXD_SDA_MOSI_DATA/CTIMER2_MAT2/FREQME_GPIO_CLK_A/SWCLK/ADC0_1, 25 ~{PIO0_12}/FC3_TXD_SCL_MISO/~{FREQME_GPIO_CLK_B}/SCT0_GPI7/SWDIO/ADC0_2, 26 PIO0_15/FC6_CTS_SDA_SSEL0/UTICK_CAP2/CTIMER4_CAP0/SCT0_OUT2/EMC_WEN/ADC0_3, 27 PIO0_16/FC4_TXD_SCL_MISO/CLKOUT/CTIMER1_CAP0/EMC_CSN(0)/ADC0_4, 28 PIO0_31/FC0_CTS_SDA_SSEL0/SD_D(2)/CTIMER0_MAT1/SCT0_OUT3/TRACEDATA(0)/ADC0_5, 35 PIO0_23/MCLK/CTIMER1_MAT2/CTIMER3_MAT3/SCT0_OUT4/FC0_CTS_SDA_SSEL0/SPIFI_CSN/ADC0_11, 38 PIO0_24/FC0_RXD_SDA_MOSI/SD_D(0)/CTIMER2_CAP0/SCT0_GPI0/SPIFI_IO(0), 40 PIO0_25/FC0_TXD_SCL_MISO/SD_D(1)/CTIMER2_CAP1/SCT0_GPI1/SPIFI_IO(1), 42 PIO0_27/FC2_TXD_SCL_MISO/CTIMER3_MAT2/SCT0_OUT6/PDM0_DATA/SPIFI_IO(3), 44 PIO0_28/FC0_SCK/CTIMER2_CAP3/SCT0_OUT7/TRACEDATA(3)/SPIFI_IO(2)/USB0_OVERCURRENTN, 56 PIO0_26/FC2_RXD_SDA_MOSI/CLKOUT/CTIMER3_CAP2/SCT0_OUT5/PDM0_CLK/SPIFI_CLK/USB0_IDVALUE/FC10_CTS_SDA_SSEL0, 61 PIO0_7/FC3_RTS_SCL_SSEL1/SD_CLK/FC5_SCK/FC1_SCK/PDM1_CLK/EMC_D(5), 64 PIO0_8/FC3_SSEL3/SD_CMD/FC5_RXD_SDA_MOSI/SWO/PDM1_DATA/EMC_D(6), 65 PIO0_9/FC3_SSEL2/SD_POW_EN/FC5_TXD_SCL_MISO/SCI1_IO/EMC_D(7), 67 PIO0_13/FC1_CTS_SDA_SSEL0/UTICK_CAP0/CTIMER0_CAP0/SCT0_GPI0, 69 PIO0_14/FC1_RTS_SCL_SSEL1/UTICK_CAP1/CTIMER0_CAP1/SCT0_GPI1, 70 ~{PIO0_17}/FC4_SSEL2/~{SD_CARD_DET_N}/SCT0_GPI7/SCT0_OUT0/EMC_OEN, 72 PIO0_18/FC4_CTS_SDA_SSEL0/SD_WR_PRT/CTIMER1_MAT0/SCT0_OUT1/SCI1_SCLK/EMC_A(0), 74 PIO0_20/FC3_CTS_SDA_SSEL0/CTIMER1_MAT1/CTIMER3_CAP3/SCT0_GPI2/SCI0_IO/EMC_A(2)/FC7_RXD_SDA_MOSI_DATA, 77 PIO0_21/FC3_RTS_SCL_SSEL1/UTICK_CAP3/CTIMER3_MAT3/SCT0_GPI3/SCI0_SCLK/EMC_A(3)/FC7_SCK, 80 PIO0_22/FC6_TXD_SCL_MISO_WS/UTICK_CAP1/CTIMER3_CAP3/SCT0_OUT3/USB0_VBUS, 82 PIO0_29/FC0_RXD_SDA_MOSI/CTIMER2_MAT3/SCT0_OUT8/TRACEDATA(2), 83 PIO0_2/FC3_TXD_SCL_MISO/CTIMER0_CAP1/SCT0_OUT0/SCT0_GPI2/EMC_D(0), 85 PIO0_3/FC3_RXD_SDA_MOSI/CTIMER0_MAT1/SCT0_OUT1/SCT0_GPI3/EMC_D(1), 87 PIO0_4/FC4_SCK/CTIMER3_CAP0/SCT0_GPI4/EMC_D(2), 89 PIO0_5/FC4_RXD_SDA_MOSI/CTIMER3_MAT0/SCT0_GPI5/EMC_D(3), 90 PIO0_6/FC3_SCK/CTIMER3_CAP1/CTIMER4_MAT0/SCT0_GPI6/EMC_D(4), 91 PIO0_19/FC4_RTS_SCL_SSEL1/UTICK_CAP0/CTIMER0_MAT2/SCT0_OUT2/EMC_A(1)/FC7_TXD_SCL_MISO_WS, 93 PIO0_0/FC3_SCK/CTIMER0_MAT0/SCT0_GPI0/PDM0_CLK, 95 PIO0_30/FC0_TXD_SCL_MISO/CTIMER0_MAT0/SCT0_OUT9/TRACEDATA(1), 100 PIO0_1/FC3_CTS_SDA_SSEL0/CTIMER0_CAP0/SCT0_GPI1/PDM0_DATA
part C pins: 3 PIO1_4/FC0_SCK/SD_D(0)/CTIMER2_MAT1/SCT0_OUT0/FREQME_GPIO_CLK_A/EMC_D(11), 4 PIO1_5/FC0_RXD_SDA_MOSI/SD_D(2)/CTIMER2_MAT0/SCT0_GPI0/EMC_A(4), 5 ~{PIO1_18}/FC8_TXD_SCL_MISO/SCT0_OUT5/~{EMC_BLSN(1)}, 15 PIO1_6/FC0_TXD_SCL_MISO/SD_D(3)/CTIMER2_MAT1/SCT0_GPI3/EMC_A(5), 16 PIO1_19/FC8_SCK/SCT0_OUT7/CTIMER3_MAT1/SCT0_GPI7/FC4_SCK/EMC_D(8), 17 PIO1_20/FC7_RTS_SCL_SSEL1/CTIMER3_CAP2/FC4_TXD_SCL_MISO/EMC_D(9), 18 PIO1_7/FC0_RTS_SCL_SSEL1/SD_D(1)/CTIMER2_MAT2/SCT0_GPI4/EMC_A(6), 29 PIO1_0/FC0_RTS_SCL_SSEL1/SD_D(3)/CTIMER0_CAP2/SCT0_GPI4/TRACECLK/ADC0_6, 36 PIO1_8/FC0_CTS_SDA_SSEL0/SD_CLK/SCT0_OUT1/FC4_SSEL2/EMC_A(7), 37 PIO1_21/FC7_CTS_SDA_SSEL0/CTIMER3_MAT2/FC4_RXD_SDA_MOSI/EMC_D(10), 39 PIO1_9/FC1_SCK/CTIMER1_CAP0/SCT0_OUT2/FC4_CTS_SDA_SSEL0/EMC_CASN, 41 PIO1_10/FC1_RXD_SDA_MOSI/CTIMER1_MAT0/SCT0_OUT3/EMC_RASN, 43 PIO1_22/FC8_RTS_SCL_SSEL1/SD_CMD/CTIMER2_MAT3/SCT0_GPI5/FC4_SSEL3/EMC_CKE(1), 46 PIO1_23/FC2_SCK/SCT0_OUT0/FC3_SSEL2/EMC_A(11), 47 ~{PIO1_17}/FC8_RXD_SDA_MOSI/SCT0_OUT4/~{EMC_BLSN(0)}, 55 PIO1_1/FC3_RXD_SDA_MOSI/CTIMER0_CAP3/SCT0_GPI5/FC10_RXD_SDA_MOSI/USB1_OVERCURRENTN, 57 PIO1_24/FC2_RXD_SDA_MOSI/SCT0_OUT1/FC3_SSEL3/EMC_A(12), 58 PIO1_2/CTIMER0_MAT3/SCT0_GPI6/PDM1_CLK/FC10_TXD_SCL_MISO/USB1_PORTPWRN, 59 PIO1_25/FC2_TXD_SCL_MISO/SCT0_OUT2/UTICK_CAP0/EMC_A(13), 60 PIO1_3/SCT0_OUT4/PDM1_DATA/USB0_PORTPWRN/FC10_SCK, 62 PIO1_12/FC6_SCK/CTIMER1_MAT1/USB0_PORTPWRN/EMC_DYCSN(0), 63 PIO1_26/FC2_CTS_SDA_SSEL0/SCT0_OUT3/CTIMER0_CAP3/UTICK_CAP1/EMC_A(8), 66 PIO1_13/FC6_RXD_SDA_MOSI_DATA/CTIMER1_CAP2/USB0_OVERCURRENTN/USB0_FRAME/EMC_DQM(0), 68 PIO1_27/FC2_RTS_SCL_SSEL1/SD_D(4)/CTIMER0_MAT3/CLKOUT/EMC_A(9), 73 PIO1_28/FC7_SCK/SD_D(5)/CTIMER0_CAP2/EMC_D(12), 78 PIO1_14/UTICK_CAP2/CTIMER1_MAT2/FC5_CTS_SDA_SSEL0/USB0_LEDN/EMC_DQM(1), 81 PIO1_29/FC7_RXD_SDA_MOSI_DATA/SD_D(6)/SCT0_GPI6/USB1_PORTPWRN/USB1_FRAME/EMC_D(13), 84 PIO1_15/UTICK_CAP3/CTIMER1_CAP3/FC5_RTS_SCL_SSEL1/FC4_RTS_SCL_SSEL1/EMC_CKE(0), 86 PIO1_30/FC7_TXD_SCL_MISO_WS/SD_D(7)/SCT0_GPI7/USB1_OVERCURRENTN/USB1_LEDN/EMC_D(14), 88 PIO1_16/FC6_TXD_SCL_MISO_WS/CTIMER1_MAT3/SD_CMD/EMC_A(10), 92 PIO1_31/MCLK/CTIMER0_MAT2/SCT0_OUT6/FC8_CTS_SDA_SSEL0/EMC_D(15), 94 PIO1_11/FC1_TXD_SCL_MISO/CTIMER1_CAP1/USB0_VBUS/EMC_CLK(0)


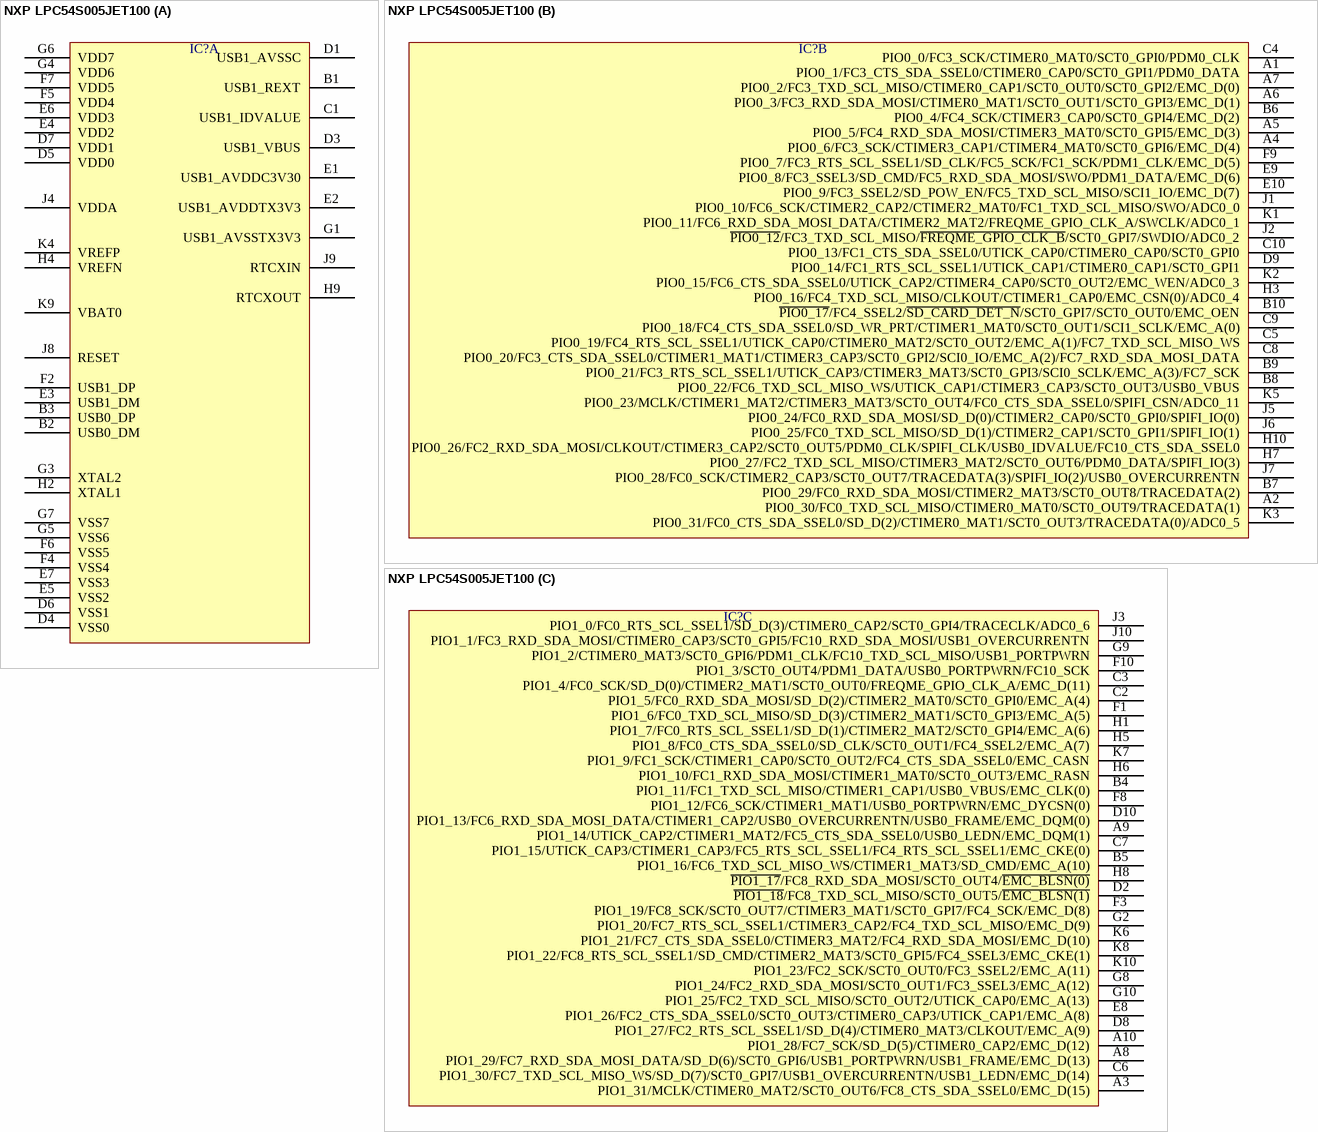
[diagram p336: symbol NXP LPC54S005JET100]

## NXP LPC54S005JET100
designator IC?  (value not drawn)
part A pins: B1 USB1_REXT, B2 USB0_DM, B3 USB0_DP, C1 USB1_IDVALUE, D1 USB1_AVSSC, D3 USB1_VBUS, D4 VSS0, D5 VDD0, D6 VSS1, D7 VDD1, E1 USB1_AVDDC3V30, E2 USB1_AVDDTX3V3, E3 USB1_DM, E4 VDD2, E5 VSS2, E6 VDD3, E7 VSS3, F2 USB1_DP, F4 VSS4, F5 VDD4, F6 VSS5, F7 VDD5, G1 USB1_AVSSTX3V3, G3 XTAL2, G4 VDD6, G5 VSS6, G6 VDD7, G7 VSS7, H2 XTAL1, H4 VREFN, H9 RTCXOUT, J4 VDDA, J8 RESET, J9 RTCXIN, K4 VREFP, K9 VBAT0
part B pins: A1 PIO0_1/FC3_CTS_SDA_SSEL0/CTIMER0_CAP0/SCT0_GPI1/PDM0_DATA, A2 PIO0_30/FC0_TXD_SCL_MISO/CTIMER0_MAT0/SCT0_OUT9/TRACEDATA(1), A4 PIO0_6/FC3_SCK/CTIMER3_CAP1/CTIMER4_MAT0/SCT0_GPI6/EMC_D(4), A5 PIO0_5/FC4_RXD_SDA_MOSI/CTIMER3_MAT0/SCT0_GPI5/EMC_D(3), A6 PIO0_3/FC3_RXD_SDA_MOSI/CTIMER0_MAT1/SCT0_OUT1/SCT0_GPI3/EMC_D(1), A7 PIO0_2/FC3_TXD_SCL_MISO/CTIMER0_CAP1/SCT0_OUT0/SCT0_GPI2/EMC_D(0), B6 PIO0_4/FC4_SCK/CTIMER3_CAP0/SCT0_GPI4/EMC_D(2), B7 PIO0_29/FC0_RXD_SDA_MOSI/CTIMER2_MAT3/SCT0_OUT8/TRACEDATA(2), B8 PIO0_22/FC6_TXD_SCL_MISO_WS/UTICK_CAP1/CTIMER3_CAP3/SCT0_OUT3/USB0_VBUS, B9 PIO0_21/FC3_RTS_SCL_SSEL1/UTICK_CAP3/CTIMER3_MAT3/SCT0_GPI3/SCI0_SCLK/EMC_A(3)/FC7_SCK, B10 ~{PIO0_17}/FC4_SSEL2/~{SD_CARD_DET_N}/SCT0_GPI7/SCT0_OUT0/EMC_OEN, C4 PIO0_0/FC3_SCK/CTIMER0_MAT0/SCT0_GPI0/PDM0_CLK, C5 PIO0_19/FC4_RTS_SCL_SSEL1/UTICK_CAP0/CTIMER0_MAT2/SCT0_OUT2/EMC_A(1)/FC7_TXD_SCL_MISO_WS, C8 PIO0_20/FC3_CTS_SDA_SSEL0/CTIMER1_MAT1/CTIMER3_CAP3/SCT0_GPI2/SCI0_IO/EMC_A(2)/FC7_RXD_SDA_MOSI_DATA, C9 PIO0_18/FC4_CTS_SDA_SSEL0/SD_WR_PRT/CTIMER1_MAT0/SCT0_OUT1/SCI1_SCLK/EMC_A(0), C10 PIO0_13/FC1_CTS_SDA_SSEL0/UTICK_CAP0/CTIMER0_CAP0/SCT0_GPI0, D9 PIO0_14/FC1_RTS_SCL_SSEL1/UTICK_CAP1/CTIMER0_CAP1/SCT0_GPI1, E9 PIO0_8/FC3_SSEL3/SD_CMD/FC5_RXD_SDA_MOSI/SWO/PDM1_DATA/EMC_D(6), E10 PIO0_9/FC3_SSEL2/SD_POW_EN/FC5_TXD_SCL_MISO/SCI1_IO/EMC_D(7), F9 PIO0_7/FC3_RTS_SCL_SSEL1/SD_CLK/FC5_SCK/FC1_SCK/PDM1_CLK/EMC_D(5), H3 PIO0_16/FC4_TXD_SCL_MISO/CLKOUT/CTIMER1_CAP0/EMC_CSN(0)/ADC0_4, H7 PIO0_27/FC2_TXD_SCL_MISO/CTIMER3_MAT2/SCT0_OUT6/PDM0_DATA/SPIFI_IO(3), H10 PIO0_26/FC2_RXD_SDA_MOSI/CLKOUT/CTIMER3_CAP2/SCT0_OUT5/PDM0_CLK/SPIFI_CLK/USB0_IDVALUE/FC10_CTS_SDA_SSEL0, J1 PIO0_10/FC6_SCK/CTIMER2_CAP2/CTIMER2_MAT0/FC1_TXD_SCL_MISO/SWO/ADC0_0, J2 ~{PIO0_12}/FC3_TXD_SCL_MISO/~{FREQME_GPIO_CLK_B}/SCT0_GPI7/SWDIO/ADC0_2, J5 PIO0_24/FC0_RXD_SDA_MOSI/SD_D(0)/CTIMER2_CAP0/SCT0_GPI0/SPIFI_IO(0), J6 PIO0_25/FC0_TXD_SCL_MISO/SD_D(1)/CTIMER2_CAP1/SCT0_GPI1/SPIFI_IO(1), J7 PIO0_28/FC0_SCK/CTIMER2_CAP3/SCT0_OUT7/TRACEDATA(3)/SPIFI_IO(2)/USB0_OVERCURRENTN, K1 PIO0_11/FC6_RXD_SDA_MOSI_DATA/CTIMER2_MAT2/FREQME_GPIO_CLK_A/SWCLK/ADC0_1, K2 PIO0_15/FC6_CTS_SDA_SSEL0/UTICK_CAP2/CTIMER4_CAP0/SCT0_OUT2/EMC_WEN/ADC0_3, K3 PIO0_31/FC0_CTS_SDA_SSEL0/SD_D(2)/CTIMER0_MAT1/SCT0_OUT3/TRACEDATA(0)/ADC0_5, K5 PIO0_23/MCLK/CTIMER1_MAT2/CTIMER3_MAT3/SCT0_OUT4/FC0_CTS_SDA_SSEL0/SPIFI_CSN/ADC0_11
part C pins: A3 PIO1_31/MCLK/CTIMER0_MAT2/SCT0_OUT6/FC8_CTS_SDA_SSEL0/EMC_D(15), A8 PIO1_29/FC7_RXD_SDA_MOSI_DATA/SD_D(6)/SCT0_GPI6/USB1_PORTPWRN/USB1_FRAME/EMC_D(13), A9 PIO1_14/UTICK_CAP2/CTIMER1_MAT2/FC5_CTS_SDA_SSEL0/USB0_LEDN/EMC_DQM(1), A10 PIO1_28/FC7_SCK/SD_D(5)/CTIMER0_CAP2/EMC_D(12), B4 PIO1_11/FC1_TXD_SCL_MISO/CTIMER1_CAP1/USB0_VBUS/EMC_CLK(0), B5 PIO1_16/FC6_TXD_SCL_MISO_WS/CTIMER1_MAT3/SD_CMD/EMC_A(10), C2 PIO1_5/FC0_RXD_SDA_MOSI/SD_D(2)/CTIMER2_MAT0/SCT0_GPI0/EMC_A(4), C3 PIO1_4/FC0_SCK/SD_D(0)/CTIMER2_MAT1/SCT0_OUT0/FREQME_GPIO_CLK_A/EMC_D(11), C6 PIO1_30/FC7_TXD_SCL_MISO_WS/SD_D(7)/SCT0_GPI7/USB1_OVERCURRENTN/USB1_LEDN/EMC_D(14), C7 PIO1_15/UTICK_CAP3/CTIMER1_CAP3/FC5_RTS_SCL_SSEL1/FC4_RTS_SCL_SSEL1/EMC_CKE(0), D2 ~{PIO1_18}/FC8_TXD_SCL_MISO/SCT0_OUT5/~{EMC_BLSN(1)}, D8 PIO1_27/FC2_RTS_SCL_SSEL1/SD_D(4)/CTIMER0_MAT3/CLKOUT/EMC_A(9), D10 PIO1_13/FC6_RXD_SDA_MOSI_DATA/CTIMER1_CAP2/USB0_OVERCURRENTN/USB0_FRAME/EMC_DQM(0), E8 PIO1_26/FC2_CTS_SDA_SSEL0/SCT0_OUT3/CTIMER0_CAP3/UTICK_CAP1/EMC_A(8), F1 PIO1_6/FC0_TXD_SCL_MISO/SD_D(3)/CTIMER2_MAT1/SCT0_GPI3/EMC_A(5), F3 PIO1_19/FC8_SCK/SCT0_OUT7/CTIMER3_MAT1/SCT0_GPI7/FC4_SCK/EMC_D(8), F8 PIO1_12/FC6_SCK/CTIMER1_MAT1/USB0_PORTPWRN/EMC_DYCSN(0), F10 PIO1_3/SCT0_OUT4/PDM1_DATA/USB0_PORTPWRN/FC10_SCK, G2 PIO1_20/FC7_RTS_SCL_SSEL1/CTIMER3_CAP2/FC4_TXD_SCL_MISO/EMC_D(9), G8 PIO1_24/FC2_RXD_SDA_MOSI/SCT0_OUT1/FC3_SSEL3/EMC_A(12), G9 PIO1_2/CTIMER0_MAT3/SCT0_GPI6/PDM1_CLK/FC10_TXD_SCL_MISO/USB1_PORTPWRN, G10 PIO1_25/FC2_TXD_SCL_MISO/SCT0_OUT2/UTICK_CAP0/EMC_A(13), H1 PIO1_7/FC0_RTS_SCL_SSEL1/SD_D(1)/CTIMER2_MAT2/SCT0_GPI4/EMC_A(6), H5 PIO1_8/FC0_CTS_SDA_SSEL0/SD_CLK/SCT0_OUT1/FC4_SSEL2/EMC_A(7), H6 PIO1_10/FC1_RXD_SDA_MOSI/CTIMER1_MAT0/SCT0_OUT3/EMC_RASN, H8 ~{PIO1_17}/FC8_RXD_SDA_MOSI/SCT0_OUT4/~{EMC_BLSN(0)}, J3 PIO1_0/FC0_RTS_SCL_SSEL1/SD_D(3)/CTIMER0_CAP2/SCT0_GPI4/TRACECLK/ADC0_6, J10 PIO1_1/FC3_RXD_SDA_MOSI/CTIMER0_CAP3/SCT0_GPI5/FC10_RXD_SDA_MOSI/USB1_OVERCURRENTN, K6 PIO1_21/FC7_CTS_SDA_SSEL0/CTIMER3_MAT2/FC4_RXD_SDA_MOSI/EMC_D(10), K7 PIO1_9/FC1_SCK/CTIMER1_CAP0/SCT0_OUT2/FC4_CTS_SDA_SSEL0/EMC_CASN, K8 PIO1_22/FC8_RTS_SCL_SSEL1/SD_CMD/CTIMER2_MAT3/SCT0_GPI5/FC4_SSEL3/EMC_CKE(1), K10 PIO1_23/FC2_SCK/SCT0_OUT0/FC3_SSEL2/EMC_A(11)


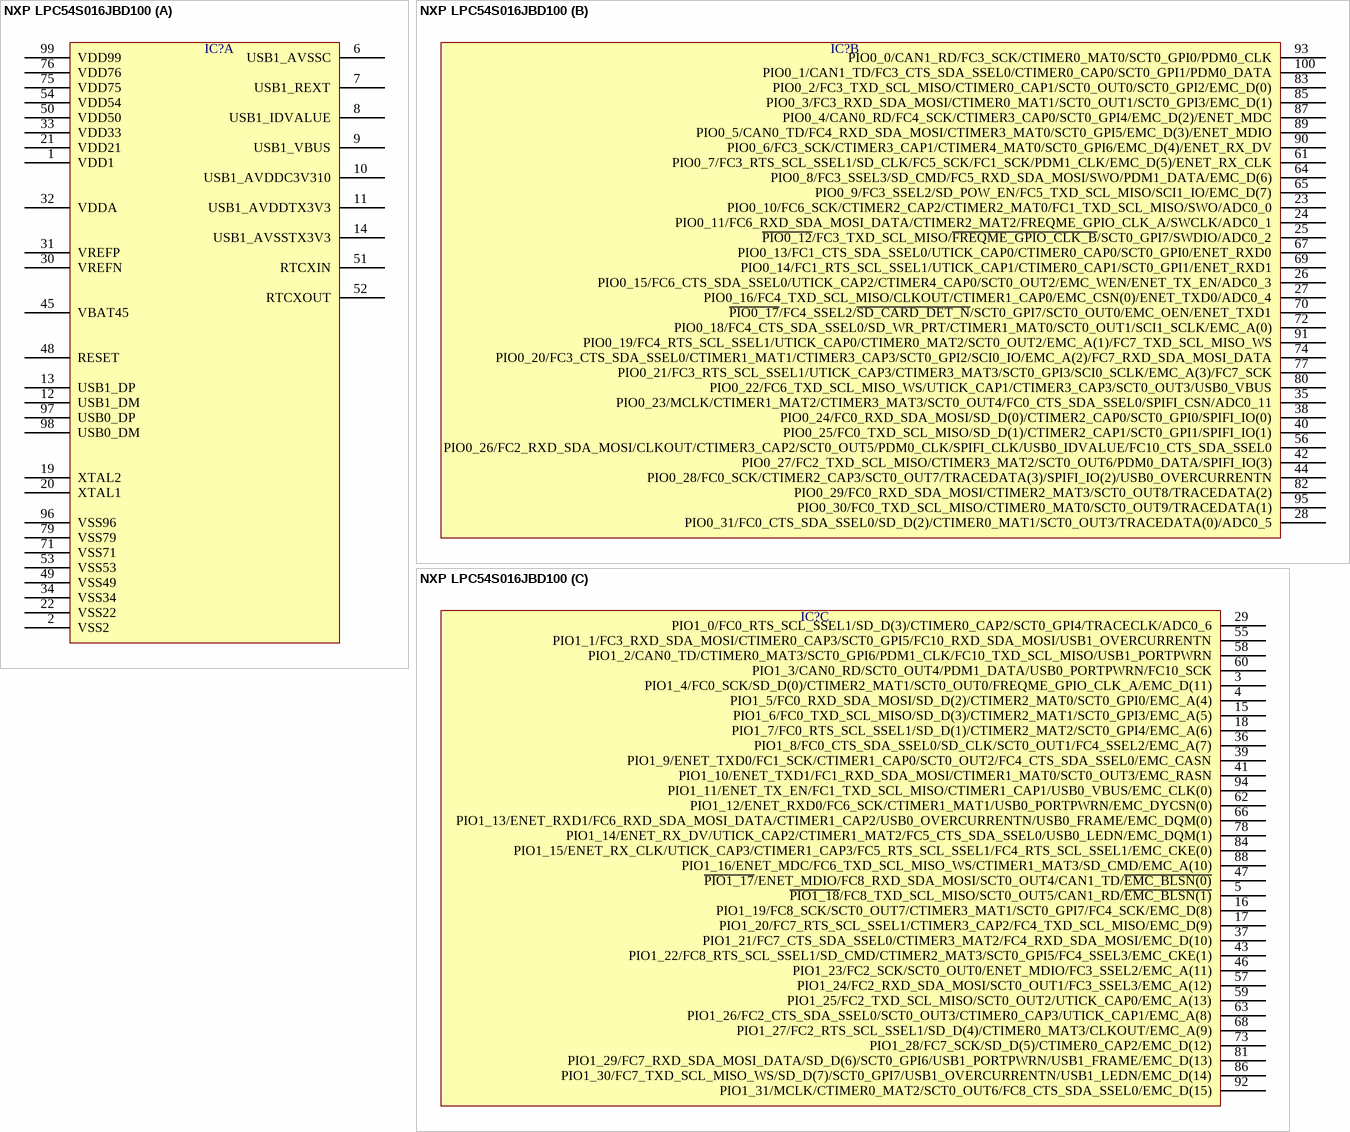
[diagram p337: symbol NXP LPC54S016JBD100]

## NXP LPC54S016JBD100
designator IC?  (value not drawn)
part A pins: 1 VDD1, 2 VSS2, 6 USB1_AVSSC, 7 USB1_REXT, 8 USB1_IDVALUE, 9 USB1_VBUS, 10 USB1_AVDDC3V310, 11 USB1_AVDDTX3V3, 12 USB1_DM, 13 USB1_DP, 14 USB1_AVSSTX3V3, 19 XTAL2, 20 XTAL1, 21 VDD21, 22 VSS22, 30 VREFN, 31 VREFP, 32 VDDA, 33 VDD33, 34 VSS34, 45 VBAT45, 48 RESET, 49 VSS49, 50 VDD50, 51 RTCXIN, 52 RTCXOUT, 53 VSS53, 54 VDD54, 71 VSS71, 75 VDD75, 76 VDD76, 79 VSS79, 96 VSS96, 97 USB0_DP, 98 USB0_DM, 99 VDD99
part B pins: 23 PIO0_10/FC6_SCK/CTIMER2_CAP2/CTIMER2_MAT0/FC1_TXD_SCL_MISO/SWO/ADC0_0, 24 PIO0_11/FC6_RXD_SDA_MOSI_DATA/CTIMER2_MAT2/FREQME_GPIO_CLK_A/SWCLK/ADC0_1, 25 ~{PIO0_12}/FC3_TXD_SCL_MISO/~{FREQME_GPIO_CLK_B}/SCT0_GPI7/SWDIO/ADC0_2, 26 PIO0_15/FC6_CTS_SDA_SSEL0/UTICK_CAP2/CTIMER4_CAP0/SCT0_OUT2/EMC_WEN/ENET_TX_EN/ADC0_3, 27 PIO0_16/FC4_TXD_SCL_MISO/CLKOUT/CTIMER1_CAP0/EMC_CSN(0)/ENET_TXD0/ADC0_4, 28 PIO0_31/FC0_CTS_SDA_SSEL0/SD_D(2)/CTIMER0_MAT1/SCT0_OUT3/TRACEDATA(0)/ADC0_5, 35 PIO0_23/MCLK/CTIMER1_MAT2/CTIMER3_MAT3/SCT0_OUT4/FC0_CTS_SDA_SSEL0/SPIFI_CSN/ADC0_11, 38 PIO0_24/FC0_RXD_SDA_MOSI/SD_D(0)/CTIMER2_CAP0/SCT0_GPI0/SPIFI_IO(0), 40 PIO0_25/FC0_TXD_SCL_MISO/SD_D(1)/CTIMER2_CAP1/SCT0_GPI1/SPIFI_IO(1), 42 PIO0_27/FC2_TXD_SCL_MISO/CTIMER3_MAT2/SCT0_OUT6/PDM0_DATA/SPIFI_IO(3), 44 PIO0_28/FC0_SCK/CTIMER2_CAP3/SCT0_OUT7/TRACEDATA(3)/SPIFI_IO(2)/USB0_OVERCURRENTN, 56 PIO0_26/FC2_RXD_SDA_MOSI/CLKOUT/CTIMER3_CAP2/SCT0_OUT5/PDM0_CLK/SPIFI_CLK/USB0_IDVALUE/FC10_CTS_SDA_SSEL0, 61 PIO0_7/FC3_RTS_SCL_SSEL1/SD_CLK/FC5_SCK/FC1_SCK/PDM1_CLK/EMC_D(5)/ENET_RX_CLK, 64 PIO0_8/FC3_SSEL3/SD_CMD/FC5_RXD_SDA_MOSI/SWO/PDM1_DATA/EMC_D(6), 65 PIO0_9/FC3_SSEL2/SD_POW_EN/FC5_TXD_SCL_MISO/SCI1_IO/EMC_D(7), 67 PIO0_13/FC1_CTS_SDA_SSEL0/UTICK_CAP0/CTIMER0_CAP0/SCT0_GPI0/ENET_RXD0, 69 PIO0_14/FC1_RTS_SCL_SSEL1/UTICK_CAP1/CTIMER0_CAP1/SCT0_GPI1/ENET_RXD1, 70 ~{PIO0_17}/FC4_SSEL2/~{SD_CARD_DET_N}/SCT0_GPI7/SCT0_OUT0/EMC_OEN/ENET_TXD1, 72 PIO0_18/FC4_CTS_SDA_SSEL0/SD_WR_PRT/CTIMER1_MAT0/SCT0_OUT1/SCI1_SCLK/EMC_A(0), 74 PIO0_20/FC3_CTS_SDA_SSEL0/CTIMER1_MAT1/CTIMER3_CAP3/SCT0_GPI2/SCI0_IO/EMC_A(2)/FC7_RXD_SDA_MOSI_DATA, 77 PIO0_21/FC3_RTS_SCL_SSEL1/UTICK_CAP3/CTIMER3_MAT3/SCT0_GPI3/SCI0_SCLK/EMC_A(3)/FC7_SCK, 80 PIO0_22/FC6_TXD_SCL_MISO_WS/UTICK_CAP1/CTIMER3_CAP3/SCT0_OUT3/USB0_VBUS, 82 PIO0_29/FC0_RXD_SDA_MOSI/CTIMER2_MAT3/SCT0_OUT8/TRACEDATA(2), 83 PIO0_2/FC3_TXD_SCL_MISO/CTIMER0_CAP1/SCT0_OUT0/SCT0_GPI2/EMC_D(0), 85 PIO0_3/FC3_RXD_SDA_MOSI/CTIMER0_MAT1/SCT0_OUT1/SCT0_GPI3/EMC_D(1), 87 PIO0_4/CAN0_RD/FC4_SCK/CTIMER3_CAP0/SCT0_GPI4/EMC_D(2)/ENET_MDC, 89 PIO0_5/CAN0_TD/FC4_RXD_SDA_MOSI/CTIMER3_MAT0/SCT0_GPI5/EMC_D(3)/ENET_MDIO, 90 PIO0_6/FC3_SCK/CTIMER3_CAP1/CTIMER4_MAT0/SCT0_GPI6/EMC_D(4)/ENET_RX_DV, 91 PIO0_19/FC4_RTS_SCL_SSEL1/UTICK_CAP0/CTIMER0_MAT2/SCT0_OUT2/EMC_A(1)/FC7_TXD_SCL_MISO_WS, 93 PIO0_0/CAN1_RD/FC3_SCK/CTIMER0_MAT0/SCT0_GPI0/PDM0_CLK, 95 PIO0_30/FC0_TXD_SCL_MISO/CTIMER0_MAT0/SCT0_OUT9/TRACEDATA(1), 100 PIO0_1/CAN1_TD/FC3_CTS_SDA_SSEL0/CTIMER0_CAP0/SCT0_GPI1/PDM0_DATA
part C pins: 3 PIO1_4/FC0_SCK/SD_D(0)/CTIMER2_MAT1/SCT0_OUT0/FREQME_GPIO_CLK_A/EMC_D(11), 4 PIO1_5/FC0_RXD_SDA_MOSI/SD_D(2)/CTIMER2_MAT0/SCT0_GPI0/EMC_A(4), 5 ~{PIO1_18}/FC8_TXD_SCL_MISO/SCT0_OUT5/CAN1_RD/~{EMC_BLSN(1)}, 15 PIO1_6/FC0_TXD_SCL_MISO/SD_D(3)/CTIMER2_MAT1/SCT0_GPI3/EMC_A(5), 16 PIO1_19/FC8_SCK/SCT0_OUT7/CTIMER3_MAT1/SCT0_GPI7/FC4_SCK/EMC_D(8), 17 PIO1_20/FC7_RTS_SCL_SSEL1/CTIMER3_CAP2/FC4_TXD_SCL_MISO/EMC_D(9), 18 PIO1_7/FC0_RTS_SCL_SSEL1/SD_D(1)/CTIMER2_MAT2/SCT0_GPI4/EMC_A(6), 29 PIO1_0/FC0_RTS_SCL_SSEL1/SD_D(3)/CTIMER0_CAP2/SCT0_GPI4/TRACECLK/ADC0_6, 36 PIO1_8/FC0_CTS_SDA_SSEL0/SD_CLK/SCT0_OUT1/FC4_SSEL2/EMC_A(7), 37 PIO1_21/FC7_CTS_SDA_SSEL0/CTIMER3_MAT2/FC4_RXD_SDA_MOSI/EMC_D(10), 39 PIO1_9/ENET_TXD0/FC1_SCK/CTIMER1_CAP0/SCT0_OUT2/FC4_CTS_SDA_SSEL0/EMC_CASN, 41 PIO1_10/ENET_TXD1/FC1_RXD_SDA_MOSI/CTIMER1_MAT0/SCT0_OUT3/EMC_RASN, 43 PIO1_22/FC8_RTS_SCL_SSEL1/SD_CMD/CTIMER2_MAT3/SCT0_GPI5/FC4_SSEL3/EMC_CKE(1), 46 PIO1_23/FC2_SCK/SCT0_OUT0/ENET_MDIO/FC3_SSEL2/EMC_A(11), 47 ~{PIO1_17}/ENET_MDIO/FC8_RXD_SDA_MOSI/SCT0_OUT4/CAN1_TD/~{EMC_BLSN(0)}, 55 PIO1_1/FC3_RXD_SDA_MOSI/CTIMER0_CAP3/SCT0_GPI5/FC10_RXD_SDA_MOSI/USB1_OVERCURRENTN, 57 PIO1_24/FC2_RXD_SDA_MOSI/SCT0_OUT1/FC3_SSEL3/EMC_A(12), 58 PIO1_2/CAN0_TD/CTIMER0_MAT3/SCT0_GPI6/PDM1_CLK/FC10_TXD_SCL_MISO/USB1_PORTPWRN, 59 PIO1_25/FC2_TXD_SCL_MISO/SCT0_OUT2/UTICK_CAP0/EMC_A(13), 60 PIO1_3/CAN0_RD/SCT0_OUT4/PDM1_DATA/USB0_PORTPWRN/FC10_SCK, 62 PIO1_12/ENET_RXD0/FC6_SCK/CTIMER1_MAT1/USB0_PORTPWRN/EMC_DYCSN(0), 63 PIO1_26/FC2_CTS_SDA_SSEL0/SCT0_OUT3/CTIMER0_CAP3/UTICK_CAP1/EMC_A(8), 66 PIO1_13/ENET_RXD1/FC6_RXD_SDA_MOSI_DATA/CTIMER1_CAP2/USB0_OVERCURRENTN/USB0_FRAME/EMC_DQM(0), 68 PIO1_27/FC2_RTS_SCL_SSEL1/SD_D(4)/CTIMER0_MAT3/CLKOUT/EMC_A(9), 73 PIO1_28/FC7_SCK/SD_D(5)/CTIMER0_CAP2/EMC_D(12), 78 PIO1_14/ENET_RX_DV/UTICK_CAP2/CTIMER1_MAT2/FC5_CTS_SDA_SSEL0/USB0_LEDN/EMC_DQM(1), 81 PIO1_29/FC7_RXD_SDA_MOSI_DATA/SD_D(6)/SCT0_GPI6/USB1_PORTPWRN/USB1_FRAME/EMC_D(13), 84 PIO1_15/ENET_RX_CLK/UTICK_CAP3/CTIMER1_CAP3/FC5_RTS_SCL_SSEL1/FC4_RTS_SCL_SSEL1/EMC_CKE(0), 86 PIO1_30/FC7_TXD_SCL_MISO_WS/SD_D(7)/SCT0_GPI7/USB1_OVERCURRENTN/USB1_LEDN/EMC_D(14), 88 PIO1_16/ENET_MDC/FC6_TXD_SCL_MISO_WS/CTIMER1_MAT3/SD_CMD/EMC_A(10), 92 PIO1_31/MCLK/CTIMER0_MAT2/SCT0_OUT6/FC8_CTS_SDA_SSEL0/EMC_D(15), 94 PIO1_11/ENET_TX_EN/FC1_TXD_SCL_MISO/CTIMER1_CAP1/USB0_VBUS/EMC_CLK(0)


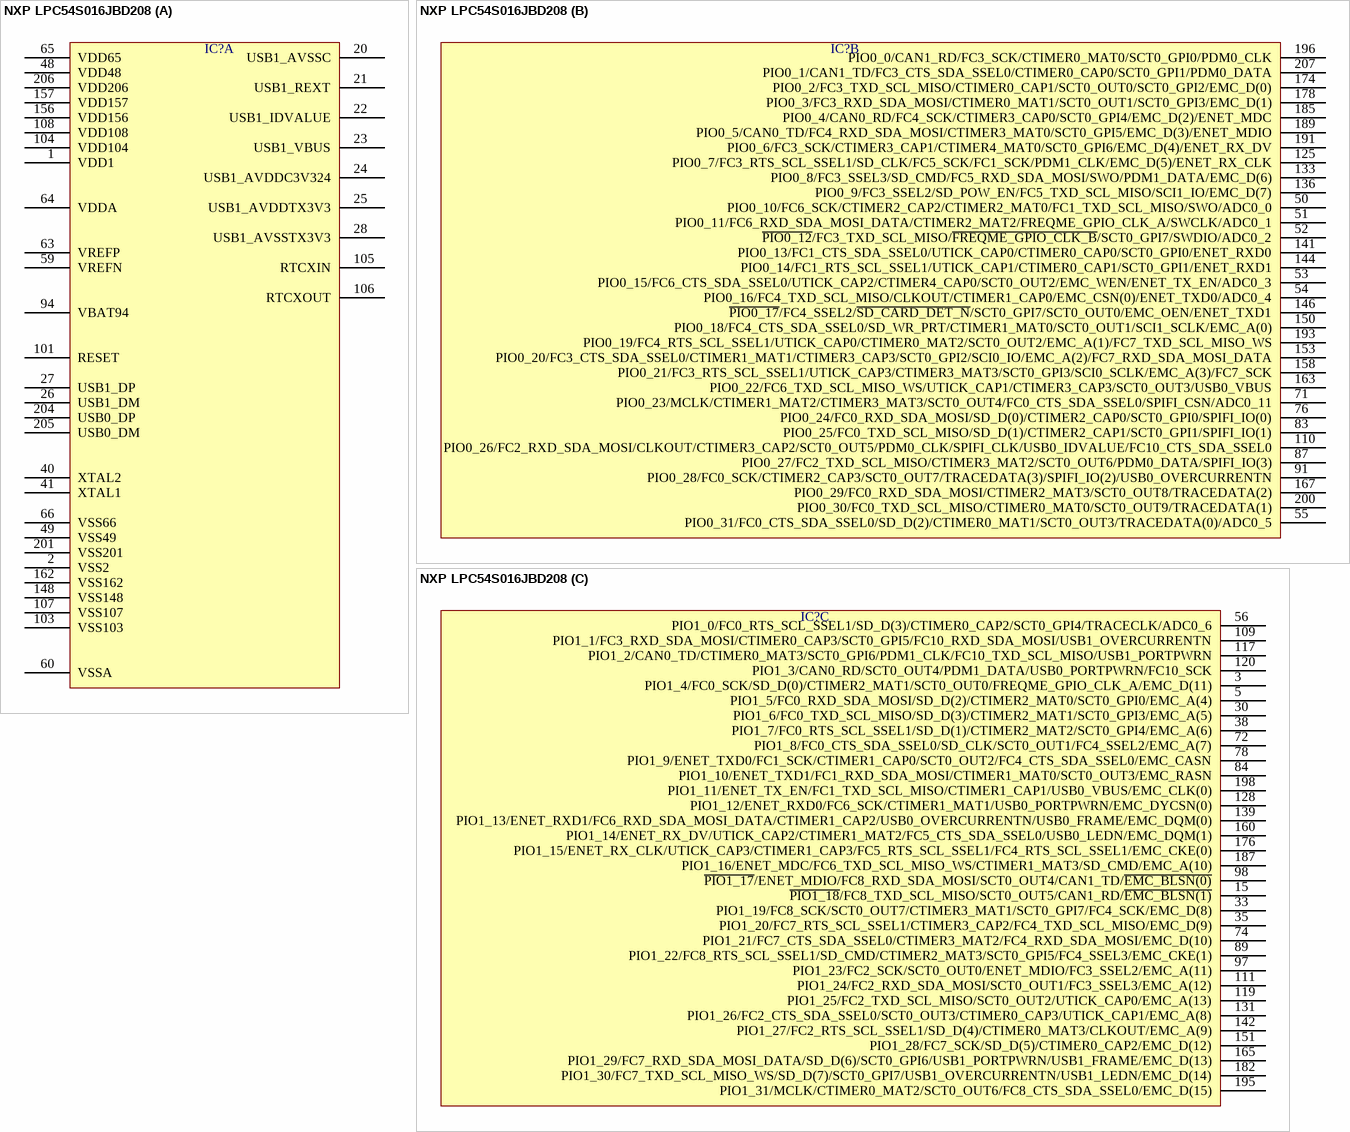
[diagram p338: symbol NXP LPC54S016JBD208]

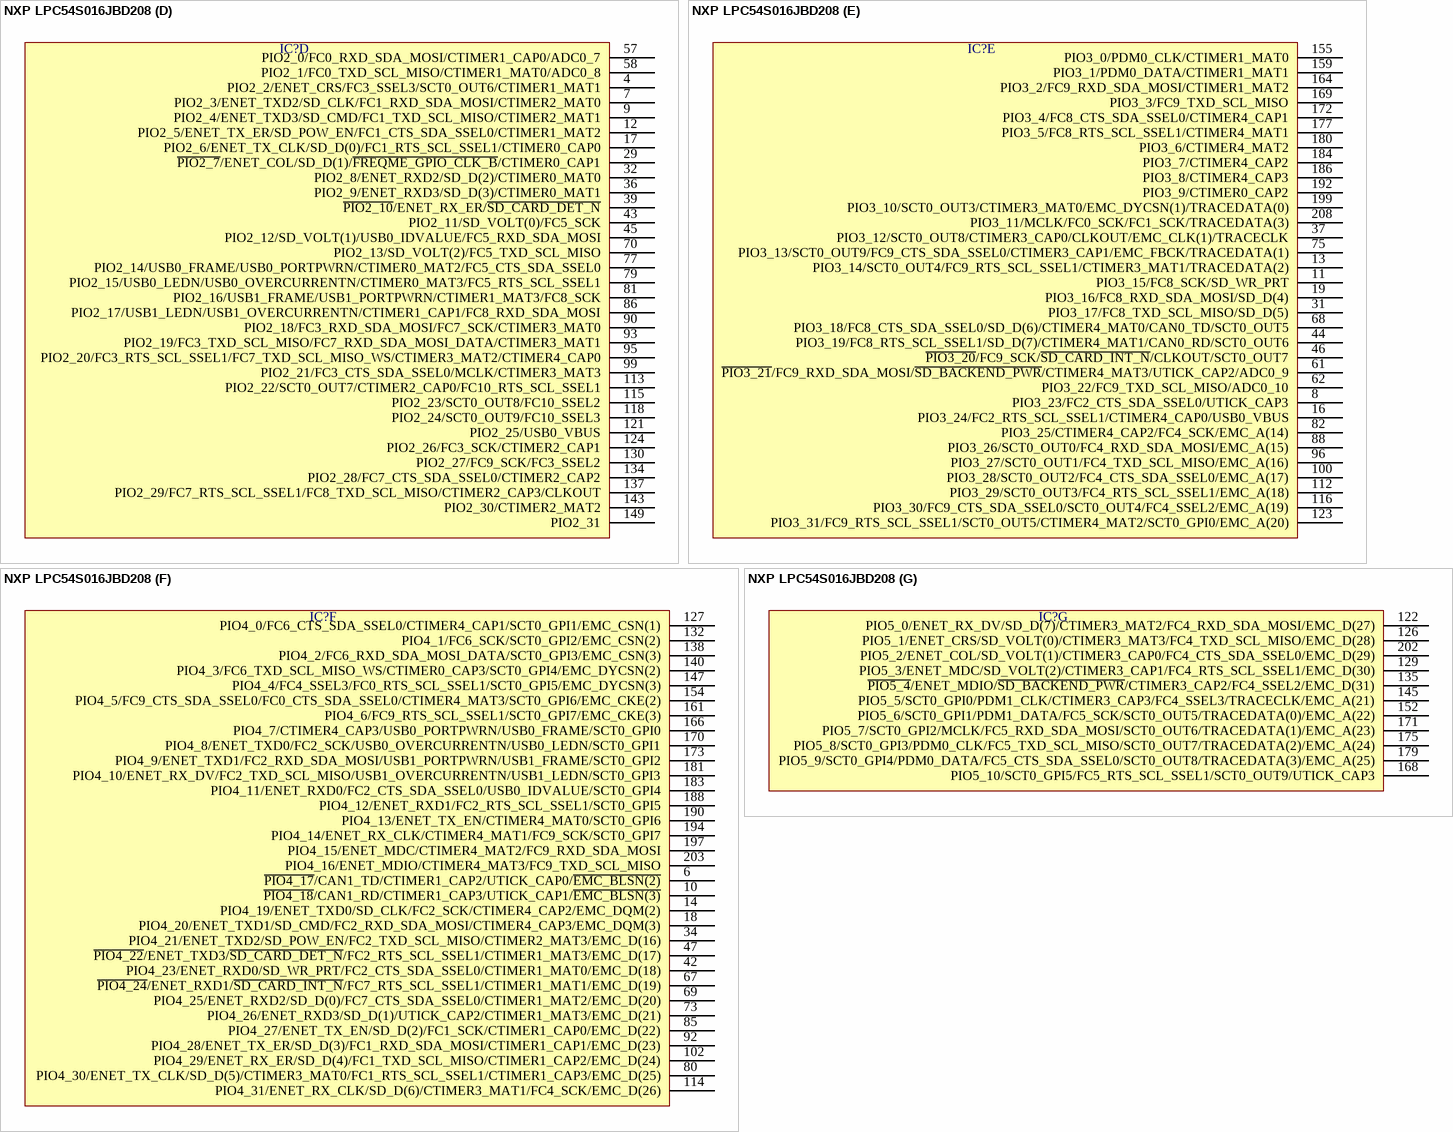
[diagram p339: symbol NXP LPC54S016JBD208]